# Altium schematic symbol library schematic.SchLib: 85 symbols
Pins are listed as number, name and electrical type; pins without a type are passive.

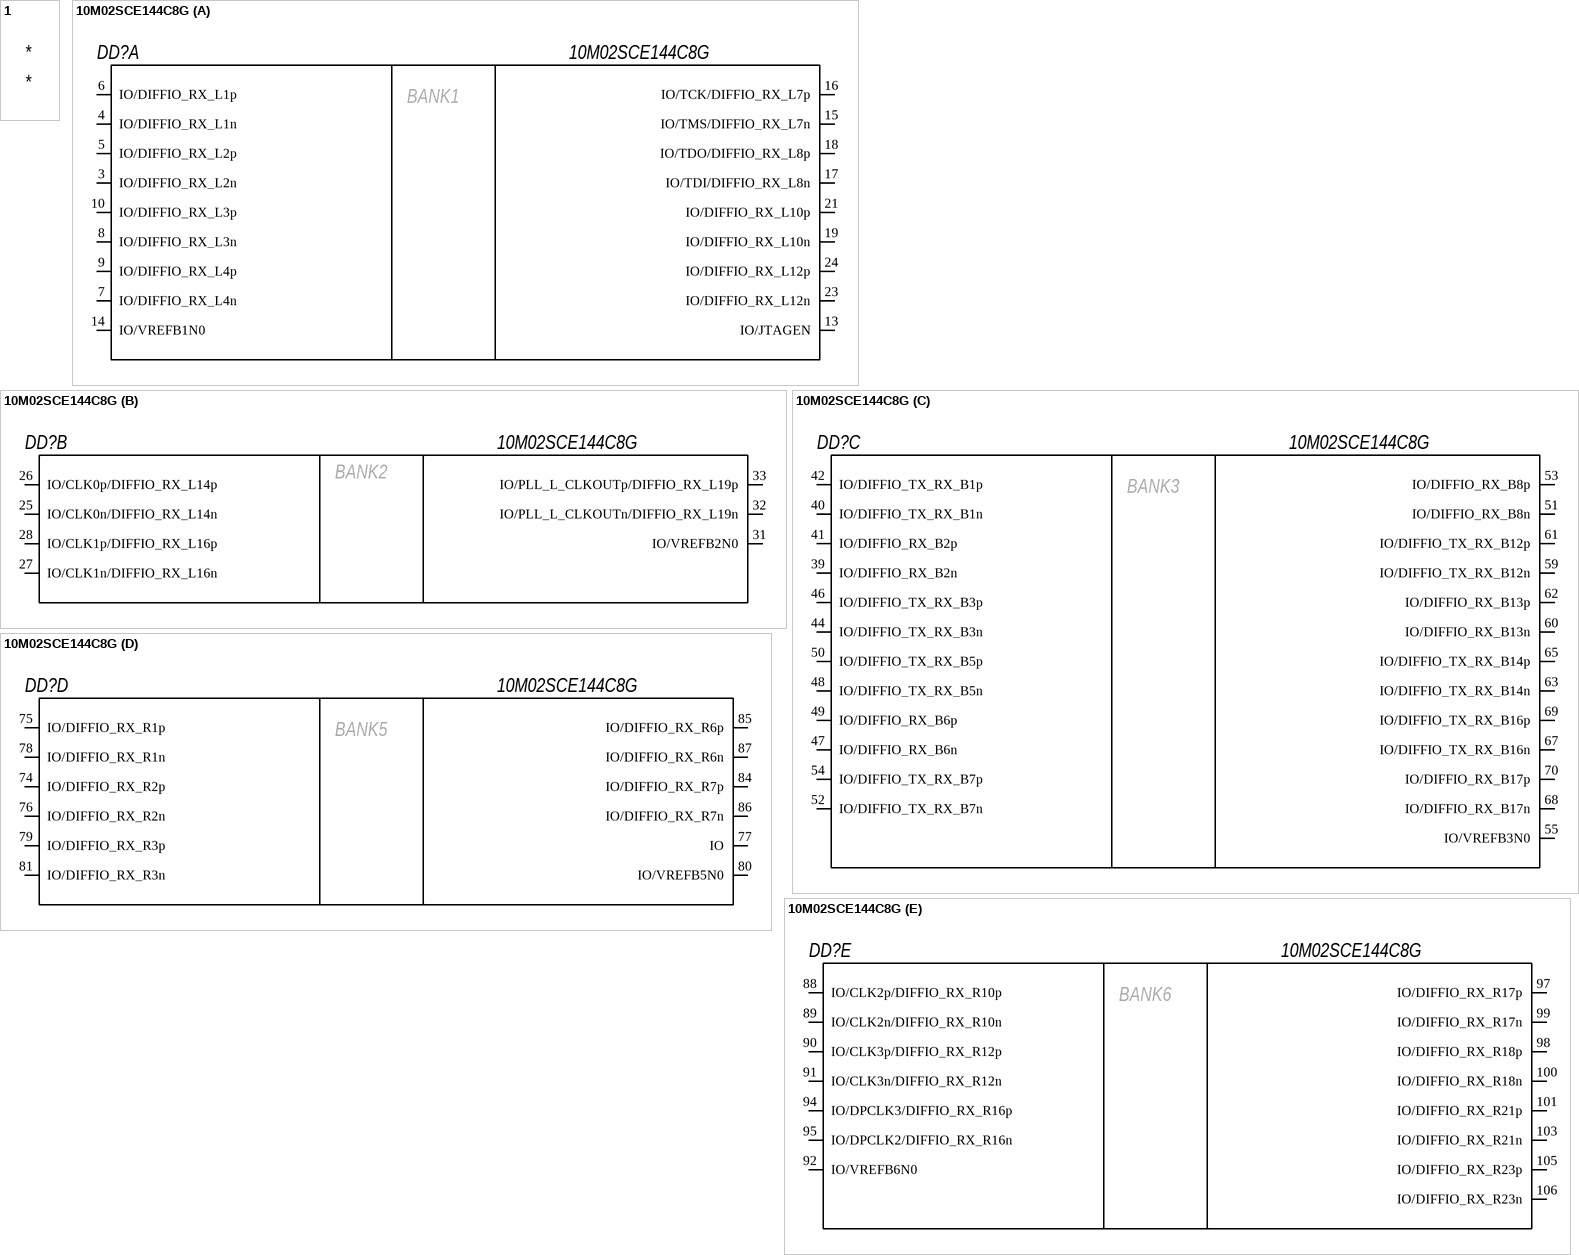
[diagram p0: symbols 1 to 10M02SCE144C8G]

## 1
designator *

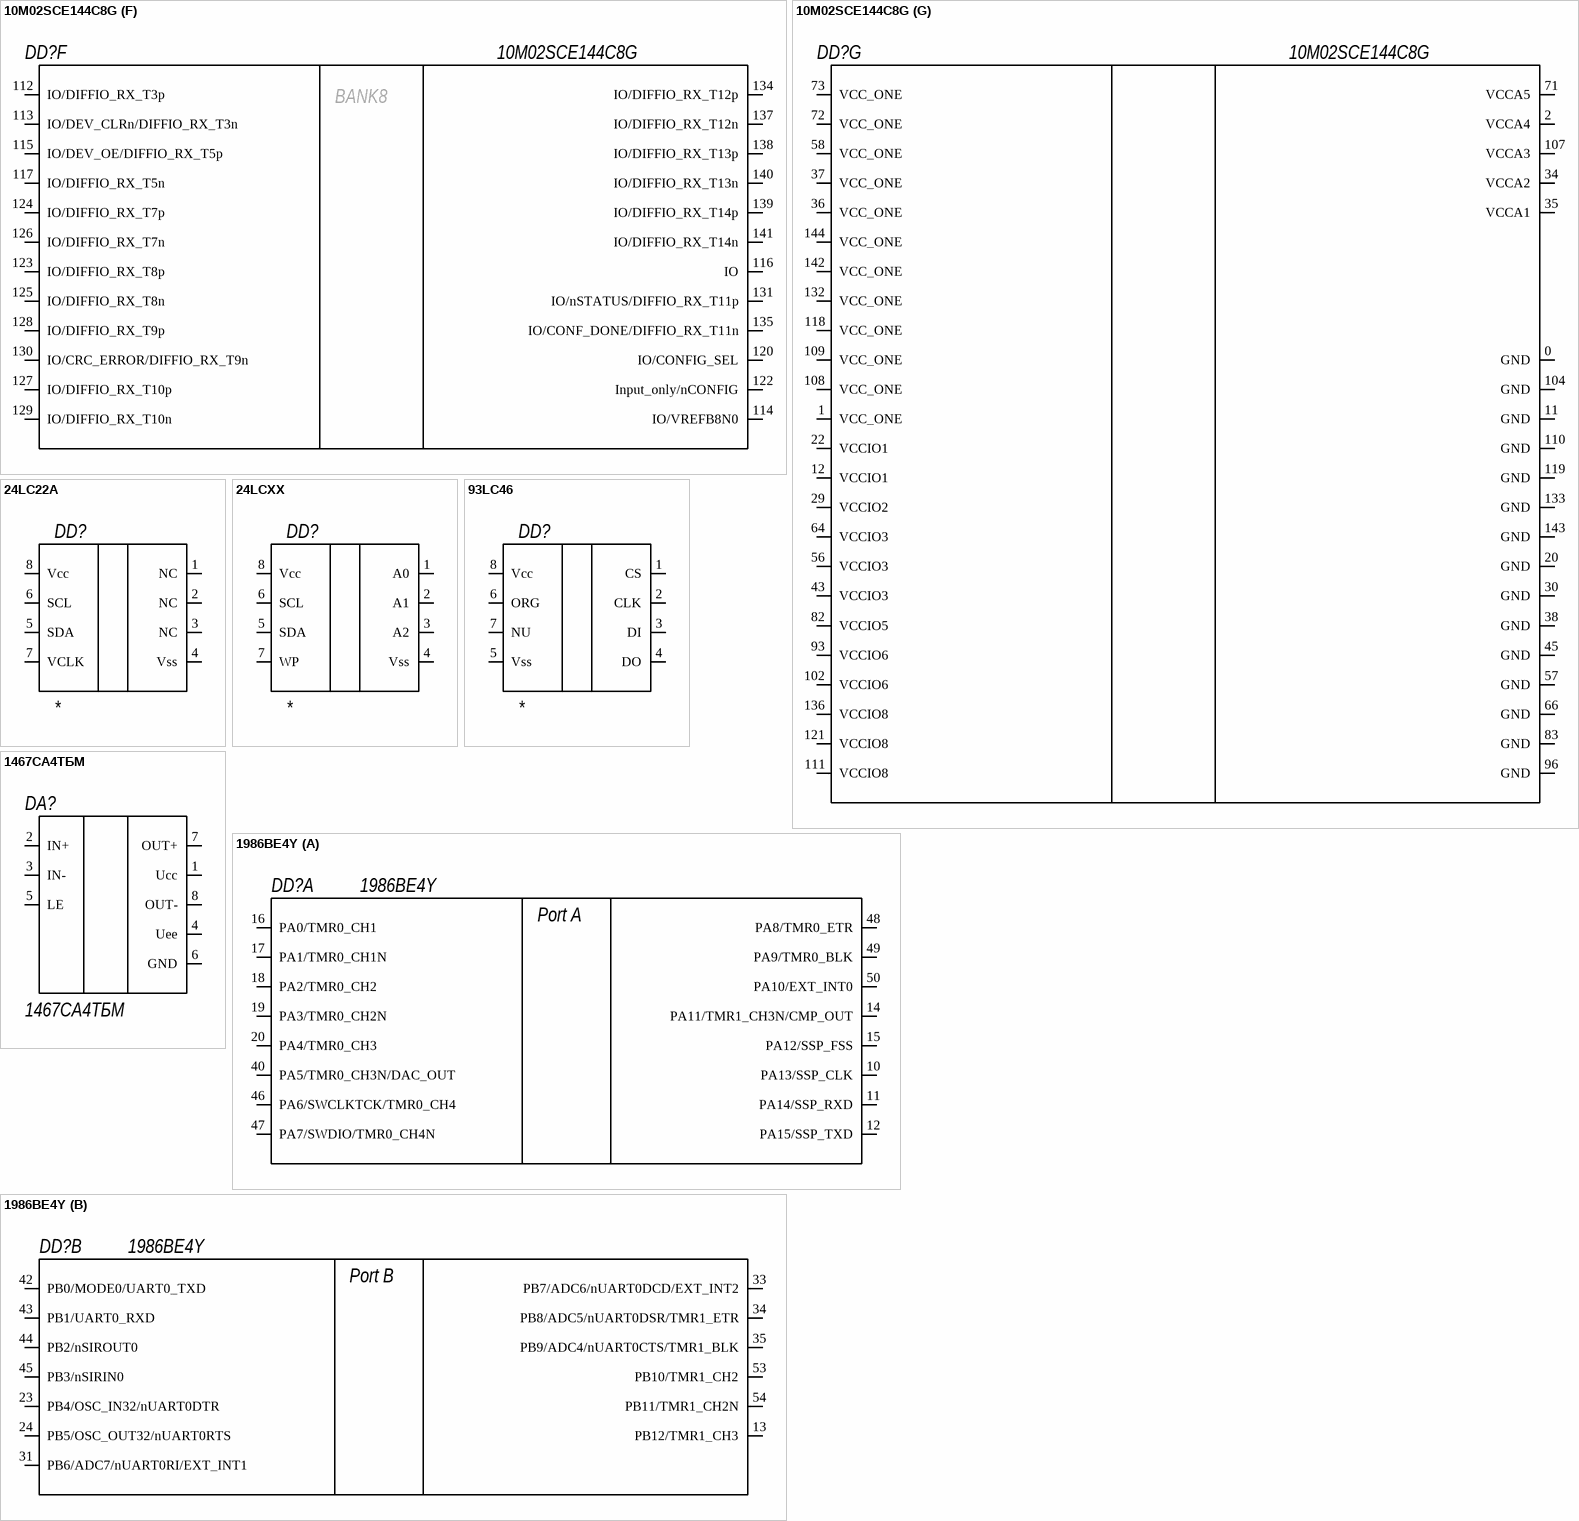
[diagram p1: symbols 10M02SCE144C8G to 1986BE4Y]

## 10M02SCE144C8G
designator DD?
MAX10 FPGA; Manufacturer: Intel; Value: 10M02SCE144C8G; HelpUrl: https://www.digikey.com/product-detail/en/intel/10M02SCE144C8G/544-3098-ND/5284822; PartNumber: 10M02SCE144C8G
footprint 144-Lead EQFP
part A pins: 3 IO/DIFFIO_RX_L2n (power), 4 IO/DIFFIO_RX_L1n (power), 5 IO/DIFFIO_RX_L2p (power), 6 IO/DIFFIO_RX_L1p (power), 7 IO/DIFFIO_RX_L4n (power), 8 IO/DIFFIO_RX_L3n (power), 9 IO/DIFFIO_RX_L4p (power), 10 IO/DIFFIO_RX_L3p (power), 13 IO/JTAGEN (power), 14 IO/VREFB1N0 (power), 15 IO/TMS/DIFFIO_RX_L7n (power), 16 IO/TCK/DIFFIO_RX_L7p (power), 17 IO/TDI/DIFFIO_RX_L8n (power), 18 IO/TDO/DIFFIO_RX_L8p (power), 19 IO/DIFFIO_RX_L10n (power), 21 IO/DIFFIO_RX_L10p (power), 23 IO/DIFFIO_RX_L12n (power), 24 IO/DIFFIO_RX_L12p (power)
part B pins: 25 IO/CLK0n/DIFFIO_RX_L14n (power), 26 IO/CLK0p/DIFFIO_RX_L14p (power), 27 IO/CLK1n/DIFFIO_RX_L16n (power), 28 IO/CLK1p/DIFFIO_RX_L16p (power), 31 IO/VREFB2N0 (power), 32 IO/PLL_L_CLKOUTn/DIFFIO_RX_L19n (power), 33 IO/PLL_L_CLKOUTp/DIFFIO_RX_L19p (power)
part C pins: 39 IO/DIFFIO_RX_B2n (power), 40 IO/DIFFIO_TX_RX_B1n (power), 41 IO/DIFFIO_RX_B2p (power), 42 IO/DIFFIO_TX_RX_B1p (power), 44 IO/DIFFIO_TX_RX_B3n (power), 46 IO/DIFFIO_TX_RX_B3p (power), 47 IO/DIFFIO_RX_B6n (power), 48 IO/DIFFIO_TX_RX_B5n (power), 49 IO/DIFFIO_RX_B6p (power), 50 IO/DIFFIO_TX_RX_B5p (power), 51 IO/DIFFIO_RX_B8n (power), 52 IO/DIFFIO_TX_RX_B7n (power), 53 IO/DIFFIO_RX_B8p (power), 54 IO/DIFFIO_TX_RX_B7p (power), 55 IO/VREFB3N0 (power), 59 IO/DIFFIO_TX_RX_B12n (power), 60 IO/DIFFIO_RX_B13n (power), 61 IO/DIFFIO_TX_RX_B12p (power), 62 IO/DIFFIO_RX_B13p (power), 63 IO/DIFFIO_TX_RX_B14n (power), 65 IO/DIFFIO_TX_RX_B14p (power), 67 IO/DIFFIO_TX_RX_B16n (power), 68 IO/DIFFIO_RX_B17n (power), 69 IO/DIFFIO_TX_RX_B16p (power), 70 IO/DIFFIO_RX_B17p (power)
part D pins: 74 IO/DIFFIO_RX_R2p (power), 75 IO/DIFFIO_RX_R1p (power), 76 IO/DIFFIO_RX_R2n (power), 77 IO (power), 78 IO/DIFFIO_RX_R1n (power), 79 IO/DIFFIO_RX_R3p (power), 80 IO/VREFB5N0 (power), 81 IO/DIFFIO_RX_R3n (power), 84 IO/DIFFIO_RX_R7p (power), 85 IO/DIFFIO_RX_R6p (power), 86 IO/DIFFIO_RX_R7n (power), 87 IO/DIFFIO_RX_R6n (power)
part E pins: 88 IO/CLK2p/DIFFIO_RX_R10p (power), 89 IO/CLK2n/DIFFIO_RX_R10n (power), 90 IO/CLK3p/DIFFIO_RX_R12p (power), 91 IO/CLK3n/DIFFIO_RX_R12n (power), 92 IO/VREFB6N0 (power), 94 IO/DPCLK3/DIFFIO_RX_R16p (power), 95 IO/DPCLK2/DIFFIO_RX_R16n (power), 97 IO/DIFFIO_RX_R17p (power), 98 IO/DIFFIO_RX_R18p (power), 99 IO/DIFFIO_RX_R17n (power), 100 IO/DIFFIO_RX_R18n (power), 101 IO/DIFFIO_RX_R21p (power), 103 IO/DIFFIO_RX_R21n (power), 105 IO/DIFFIO_RX_R23p (power), 106 IO/DIFFIO_RX_R23n (power)
part F pins: 112 IO/DIFFIO_RX_T3p (power), 113 IO/DEV_CLRn/DIFFIO_RX_T3n (power), 114 IO/VREFB8N0 (power), 115 IO/DEV_OE/DIFFIO_RX_T5p (power), 116 IO (power), 117 IO/DIFFIO_RX_T5n (power), 120 IO/CONFIG_SEL (power), 122 Input_only/nCONFIG (power), 123 IO/DIFFIO_RX_T8p (power), 124 IO/DIFFIO_RX_T7p (power), 125 IO/DIFFIO_RX_T8n (power), 126 IO/DIFFIO_RX_T7n (power), 127 IO/DIFFIO_RX_T10p (power), 128 IO/DIFFIO_RX_T9p (power), 129 IO/DIFFIO_RX_T10n (power), 130 IO/CRC_ERROR/DIFFIO_RX_T9n (power), 131 IO/nSTATUS/DIFFIO_RX_T11p (power), 134 IO/DIFFIO_RX_T12p (power), 135 IO/CONF_DONE/DIFFIO_RX_T11n (power), 137 IO/DIFFIO_RX_T12n (power), 138 IO/DIFFIO_RX_T13p (power), 139 IO/DIFFIO_RX_T14p (power), 140 IO/DIFFIO_RX_T13n (power), 141 IO/DIFFIO_RX_T14n (power)
part G pins: 0 GND (power), 1 VCC_ONE (power), 2 VCCA4 (power), 11 GND (power), 12 VCCIO1 (power), 20 GND (power), 22 VCCIO1 (power), 29 VCCIO2 (power), 30 GND (power), 34 VCCA2 (power), 35 VCCA1 (power), 36 VCC_ONE (power), 37 VCC_ONE (power), 38 GND (power), 43 VCCIO3 (power), 45 GND (power), 56 VCCIO3 (power), 57 GND (power), 58 VCC_ONE (power), 64 VCCIO3 (power), 66 GND (power), 71 VCCA5 (power), 72 VCC_ONE (power), 73 VCC_ONE (power), 82 VCCIO5 (power), 83 GND (power), 93 VCCIO6 (power), 96 GND (power), 102 VCCIO6 (power), 104 GND (power), 107 VCCA3 (power), 108 VCC_ONE (power), 109 VCC_ONE (power), 110 GND (power), 111 VCCIO8 (power), 118 VCC_ONE (power), 119 GND (power), 121 VCCIO8 (power), 132 VCC_ONE (power), 133 GND (power), 136 VCCIO8 (power), 142 VCC_ONE (power), 143 GND (power), 144 VCC_ONE (power)
part A text: BANK1
part B text: BANK2
part C text: BANK3
part D text: BANK5
part E text: BANK6
part F text: BANK8

## 24LC22A
designator DD?
IIC EEPROM; Manufacturer: Microchip; Value: *; Value1: *; ТУ: *
footprint 8-Lead SOIC_N (150 mil)
pins: 1 NC (power), 2 NC (power), 3 NC (power), 4 Vss (power), 5 SDA (power), 6 SCL (power), 7 VCLK (power), 8 Vcc (power)

## 24LCXX
designator DD?
IIC EEPROM; Manufacturer: Microchip; Value: *; Value1: *; ТУ: *
footprint 8-Lead MSOP
footprint 8-Lead SOIC_N (150 mil)
pins: 1 A0 (power), 2 A1 (power), 3 A2 (power), 4 Vss (power), 5 SDA (power), 6 SCL (power), 7 WP (power), 8 Vcc (power)

## 93LC46
designator DD?
IIC EEPROM; Manufacturer: Microchip; Value: *; Value1: *; ТУ: *
footprint 8-Lead SOIC_N (150 mil)
pins: 1 CS (power), 2 CLK (power), 3 DI (power), 4 DO (power), 5 Vss (power), 6 ORG (power), 7 NU (power), 8 Vcc (power)

## 1467СА4ТБМ
designator DA?
Manufacturer: *; Value: 1467СА4ТБМ; Value1: *
footprint 1467СА4ТБМ
pins: 1 Ucc (power), 2 IN+ (power), 3 IN- (power), 4 Uee (power), 5 LE, 6 GND (power), 7 OUT+ (power), 8 OUT- (power)

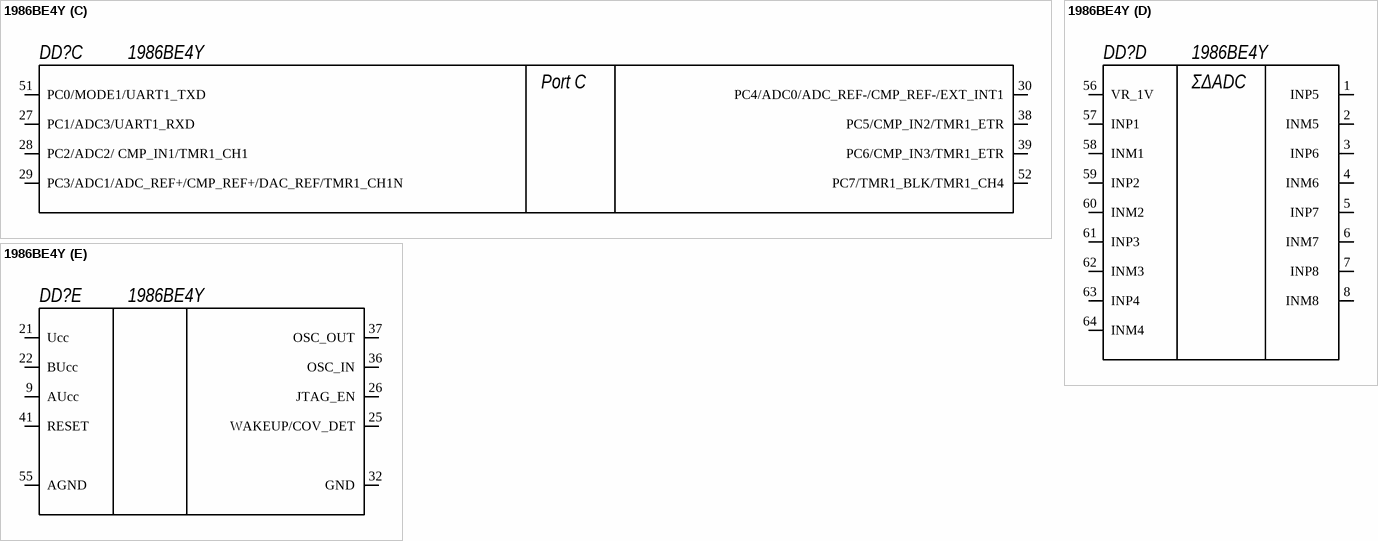
[diagram p2: symbol 1986BE4Y]

## 1986BE4Y
designator DD?
Microcontroller; manufacturer: Миландр; value: 1986BE4Y; url: *; value1: 1986BE4Y
footprint 5153.64-1
footprint Н18.64-1В
part A pins: 10 PA13/SSP_CLK (power), 11 PA14/SSP_RXD (power), 12 PA15/SSP_TXD (power), 14 PA11/TMR1_CH3N/CMP_OUT (power), 15 PA12/SSP_FSS (power), 16 PA0/TMR0_CH1 (power), 17 PA1/TMR0_CH1N (power), 18 PA2/TMR0_CH2 (power), 19 PA3/TMR0_CH2N (power), 20 PA4/TMR0_CH3 (power), 40 PA5/TMR0_CH3N/DAC_OUT (power), 46 PA6/SWCLKTCK/TMR0_CH4 (power), 47 PA7/SWDIO/TMR0_CH4N (power), 48 PA8/TMR0_ETR (power), 49 PA9/TMR0_BLK (power), 50 PA10/EXT_INT0 (power)
part B pins: 13 PB12/TMR1_CH3 (power), 23 PB4/OSC_IN32/nUART0DTR (power), 24 PB5/OSC_OUT32/nUART0RTS (power), 31 PB6/ADC7/nUART0RI/EXT_INT1 (power), 33 PB7/ADC6/nUART0DCD/EXT_INT2 (power), 34 PB8/ADC5/nUART0DSR/TMR1_ETR (power), 35 PB9/ADC4/nUART0CTS/TMR1_BLK (power), 42 PB0/MODE0/UART0_TXD (power), 43 PB1/UART0_RXD (power), 44 PB2/nSIROUT0 (power), 45 PB3/nSIRIN0 (power), 53 PB10/TMR1_CH2 (power), 54 PB11/TMR1_CH2N (power)
part C pins: 27 PC1/ADC3/UART1_RXD (power), 28 PC2/ADC2/ CMP_IN1/TMR1_CH1 (power), 29 PC3/ADC1/ADC_REF+/CMP_REF+/DAC_REF/TMR1_CH1N (power), 30 PC4/ADC0/ADC_REF-/CMP_REF-/EXT_INT1 (power), 38 PC5/CMP_IN2/TMR1_ETR (power), 39 PC6/CMP_IN3/TMR1_ETR (power), 51 PC0/MODE1/UART1_TXD (power), 52 PC7/TMR1_BLK/TMR1_CH4 (power)
part D pins: 1 INP5    (power), 2 INM5    (power), 3 INP6    (power), 4 INM6    (power), 5 INP7    (power), 6 INM7    (power), 7 INP8    (power), 8 INM8    (power), 56 VR_1V    (power), 57 INP1    (power), 58 INM1    (power), 59 INP2    (power), 60 INM2    (power), 61 INP3    (power), 62 INM3    (power), 63 INP4    (power), 64 INM4    (power)
part E pins: 9 AUcc (power), 21 Ucc (power), 22 BUcc (power), 25 WAKEUP/COV_DET (power), 26 JTAG_EN (power), 32 GND (power), 36 OSC_IN (power), 37 OSC_OUT (power), 41 RESET (power), 55 AGND (power)
part A text: Port A
part B text: Port B
part C text: Port C
part D text: ΣΔADC

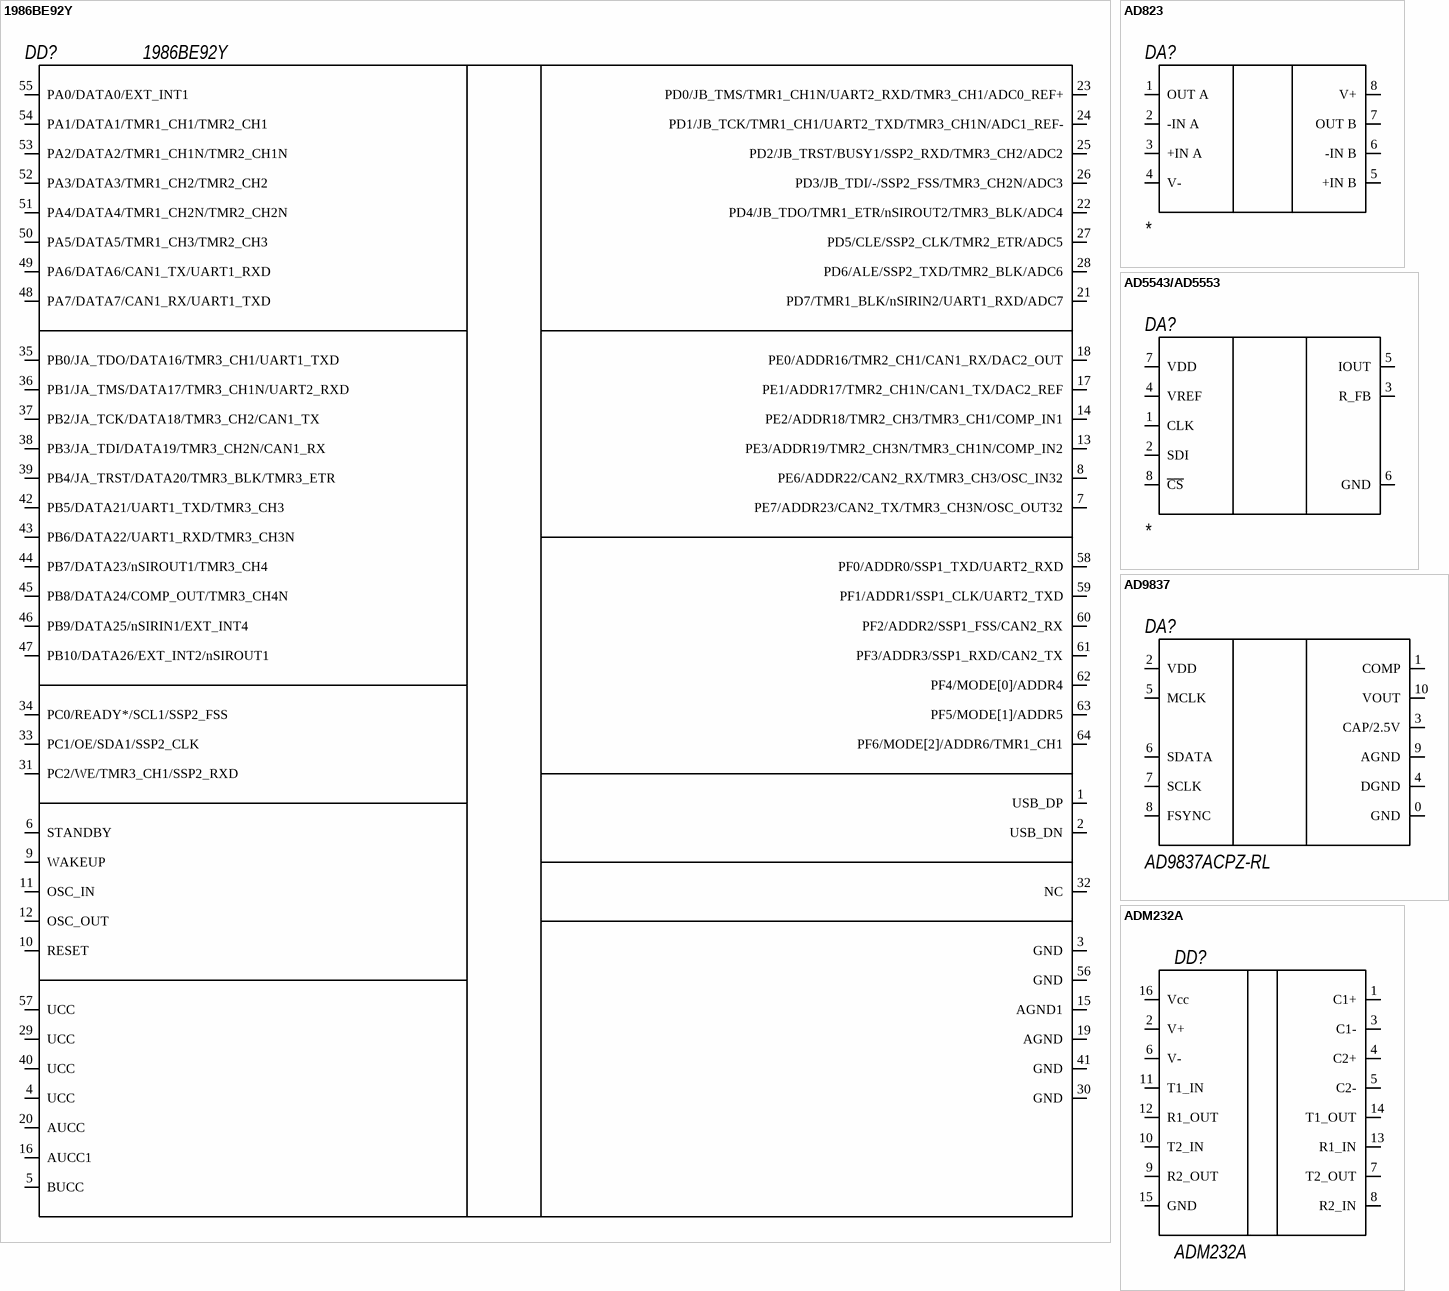
[diagram p3: symbols 1986BE92Y to ADM232A]

## 1986BE92Y
designator DD?
Microcontroller; manufacturer: Миландр; value: 1986BE92Y; url: *; value1: 1986BE92Y
footprint Н18.64-1В
pins: 1 USB_DP (power), 2 USB_DN (power), 3 GND (power), 4 UCC (power), 5 BUCC (power), 6 STANDBY (power), 7 PE7/ADDR23/CAN2_TX/TMR3_CH3N/OSC_OUT32 (power), 8 PE6/ADDR22/CAN2_RX/TMR3_CH3/OSC_IN32 (power), 9 WAKEUP (power), 10 RESET (power), 11 OSC_IN (power), 12 OSC_OUT (power), 13 PE3/ADDR19/TMR2_CH3N/TMR3_CH1N/COMP_IN2 (power), 14 PE2/ADDR18/TMR2_CH3/TMR3_CH1/COMP_IN1 (power), 15 AGND1 (power), 16 AUCC1 (power), 17 PE1/ADDR17/TMR2_CH1N/CAN1_TX/DAC2_REF (power), 18 PE0/ADDR16/TMR2_CH1/CAN1_RX/DAC2_OUT (power), 19 AGND (power), 20 AUCC (power), 21 PD7/TMR1_BLK/nSIRIN2/UART1_RXD/ADC7 (power), 22 PD4/JB_TDO/TMR1_ETR/nSIROUT2/TMR3_BLK/ADC4 (power), 23 PD0/JB_TMS/TMR1_CH1N/UART2_RXD/TMR3_CH1/ADC0_REF+ (power), 24 PD1/JB_TCK/TMR1_CH1/UART2_TXD/TMR3_CH1N/ADC1_REF- (power), 25 PD2/JB_TRST/BUSY1/SSP2_RXD/TMR3_CH2/ADC2 (power), 26 PD3/JB_TDI/-/SSP2_FSS/TMR3_CH2N/ADC3 (power), 27 PD5/CLE/SSP2_CLK/TMR2_ETR/ADC5 (power), 28 PD6/ALE/SSP2_TXD/TMR2_BLK/ADC6 (power), 29 UCC (power), 30 GND (power), 31 PC2/WE/TMR3_CH1/SSP2_RXD (power), 32 NC (power), 33 PC1/OE/SDA1/SSP2_CLK (power), 34 PC0/READY*/SCL1/SSP2_FSS (power), 35 PB0/JA_TDO/DATA16/TMR3_CH1/UART1_TXD (power), 36 PB1/JA_TMS/DATA17/TMR3_CH1N/UART2_RXD (power), 37 PB2/JA_TCK/DATA18/TMR3_CH2/CAN1_TX (power), 38 PB3/JA_TDI/DATA19/TMR3_CH2N/CAN1_RX (power), 39 PB4/JA_TRST/DATA20/TMR3_BLK/TMR3_ETR (power), 40 UCC (power), 41 GND (power), 42 PB5/DATA21/UART1_TXD/TMR3_CH3 (power), 43 PB6/DATA22/UART1_RXD/TMR3_CH3N (power), 44 PB7/DATA23/nSIROUT1/TMR3_CH4 (power), 45 PB8/DATA24/COMP_OUT/TMR3_CH4N (power), 46 PB9/DATA25/nSIRIN1/EXT_INT4 (power), 47 PB10/DATA26/EXT_INT2/nSIROUT1 (power), 48 PA7/DATA7/CAN1_RX/UART1_TXD (power), 49 PA6/DATA6/CAN1_TX/UART1_RXD (power), 50 PA5/DATA5/TMR1_CH3/TMR2_CH3 (power), 51 PA4/DATA4/TMR1_CH2N/TMR2_CH2N (power), 52 PA3/DATA3/TMR1_CH2/TMR2_CH2 (power), 53 PA2/DATA2/TMR1_CH1N/TMR2_CH1N (power), 54 PA1/DATA1/TMR1_CH1/TMR2_CH1 (power), 55 PA0/DATA0/EXT_INT1 (power), 56 GND (power), 57 UCC (power), 58 PF0/ADDR0/SSP1_TXD/UART2_RXD (power), 59 PF1/ADDR1/SSP1_CLK/UART2_TXD (power), 60 PF2/ADDR2/SSP1_FSS/CAN2_RX (power), 61 PF3/ADDR3/SSP1_RXD/CAN2_TX (power), 62 PF4/MODE[0]/ADDR4 (power), 63 PF5/MODE[1]/ADDR5 (power), 64 PF6/MODE[2]/ADDR6/TMR1_CH1 (power)

## AD823
designator DA?
OP amplifier; Manufacturer: Analog Devices; HelpUrl: *; Value: *; PartNumber: *; Value1: *
footprint 8-Lead SOIC_N (150 mil)
pins: 1 OUT A (power), 2 -IN A (power), 3 +IN A (power), 4 V- (power), 5 +IN B (power), 6 -IN B (power), 7 OUT B (power), 8 V+ (power)

## AD5543/AD5553
designator DA?
Current output DAC; Value: *; Manufacturer: *; Case: *; PartNumber: *; HelpUrl: *
footprint 8-Lead MSOP
pins: 1 CLK (power), 2 SDI (power), 3 R_FB (power), 4 VREF (power), 5 IOUT (power), 6 GND (power), 7 VDD (power), 8 ~{CS} (power)

## AD9837
designator DA?, comment AD9837ACPZ-RL
DDS; Manufacturer: Analog devices; Value: AD9837ACPZ-RL; HelpUrl: *; PartNumber: AD9837ACPZ-RL; Value1: *
footprint 10-Lead LFCSP
pins: 0 GND (power), 1 COMP (power), 2 VDD (power), 3 CAP/2.5V (power), 4 DGND (power), 5 MCLK (power), 6 SDATA (power), 7 SCLK (power), 8 FSYNC (power), 9 AGND (power), 10 VOUT (power)

## ADM232A
designator DD?
RS-232 to UART; manufacturer: Analog Devices; value: ADM232A; value1: ADM232A; url: *
footprint 16-LEAD SOIC_N (150 mil)
pins: 1 C1+ (power), 2 V+ (power), 3 C1- (power), 4 C2+ (power), 5 C2- (power), 6 V- (power), 7 T2_OUT (power), 8 R2_IN (power), 9 R2_OUT (power), 10 T2_IN (power), 11 T1_IN (power), 12 R1_OUT (power), 13 R1_IN (power), 14 T1_OUT (power), 15 GND (power), 16 Vcc (power)

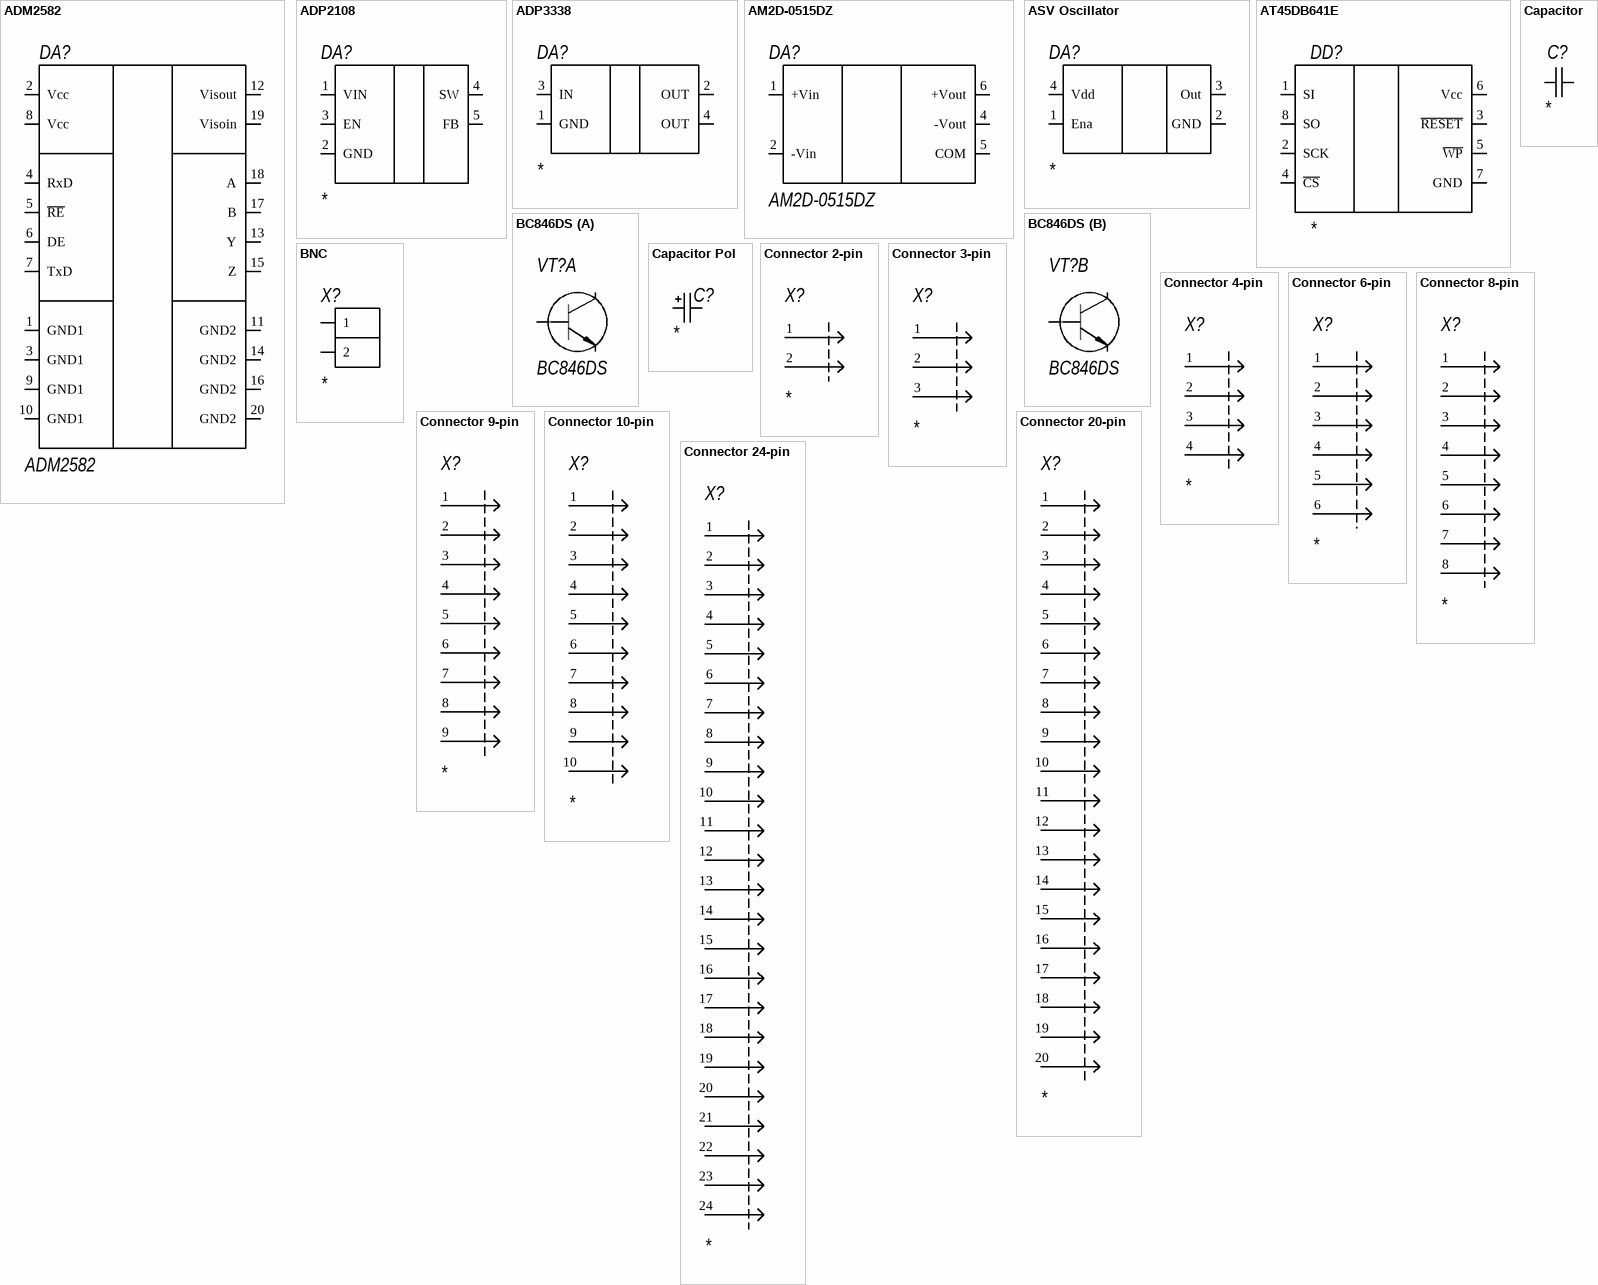
[diagram p4: symbols ADM2582 to Connector 24-pin]

## ADM2582
designator DA?
UART to RS-485/422; manufacturer: Analog Devices; value1: *; value: ADM2582; url: *
footprint 20-LEAD SOIC_W (208 mil)
pins: 1 GND1 (power), 2 Vcc (power), 3 GND1 (power), 4 RxD (power), 5 ~{RE} (power), 6 DE (power), 7 TxD (power), 8 Vcc (power), 9 GND1 (power), 10 GND1 (power), 11 GND2 (power), 12 Visout (power), 13 Y (power), 14 GND2 (power), 15 Z (power), 16 GND2 (power), 17 B (power), 18 A (power), 19 Visoin (power), 20 GND2 (power)

## ADP2108
designator DA?
Voltage regulator; Manufacturer: Analog devices; HelpUrl: *; Value: *; PartNumber: *; Value1: *
footprint 5-Lead TSOT
pins: 1 VIN (power), 2 GND (power), 3 EN (power), 4 SW (power), 5 FB (power)

## ADP3338
designator DA?
Voltage regulator; Manufacturer: Analog Devices; HelpUrl: *; Value: *; PartNumber: *; Value1: *
footprint sot223
pins: 1 GND (power), 2 OUT (power), 3 IN (power), 4 OUT (power)

## AM2D-0515DZ
designator DA?
DC/DC; Manufacturer: Aimtec; Value: AM2D-0515DZ; HelpUrl: https://static.chipdip.ru/lib/782/DOC002782698.pdf; PartNumber: AM2D-0515DZ; Value1: *
footprint SIP7(1,2,4,5,6)
pins: 1 +Vin (power), 2 -Vin (power), 4 -Vout (power), 5 COM (power), 6 +Vout (power)

## ASV Oscillator
designator DA?
Oscillator; Manufacturer: Abracon LLC; PartNumber: *; HelpUrl: https://abracon.com/Oscillators/ASV.pdf; Value: *; value1: *
footprint 4-SMD, NO LEAD
pins: 1 Ena (power), 2 GND (power), 3 Out (power), 4 Vdd (power)

## AT45DB641E
designator DD?
SPI Flash; value: *; value1: *; manufacturer: *; url: https://ru.mouser.com/datasheet/2/590/DS-45DB641E-027-1385809.pdf; ТУ: *
footprint 8-LEAD SOIC_W (208 mil)
pins: 1 SI (power), 2 SCK (power), 3 ~{RESET} (power), 4 ~{CS} (power), 5 ~{WP} (power), 6 Vcc (power), 7 GND (power), 8 SO (power)

## BC846DS
designator VT?
value: BC846DS; value1: *; ТУ: *; manufacturer: *
footprint 6-LEAD TSOP
part A pins: 1, 2, 6
part B pins: 3, 4, 5

## BNC
designator X?
Connector; PartNumber: *; Manufacturer: *; Value: *; value1: *
footprint BNC
pins: 1 (power), 2 (power)

## Capacitor
designator C?
Value: *; Value1: *; ТУ: *; Url: *
footprint К15-20В (5.5x4)
footprint C0805
footprint C0402
footprint C0603
footprint C1206
footprint C1210
footprint C 15mm
footprint C 10mm
pins: 1, 2

## Capacitor Pol
designator C?
Value: *; Value1: *; Manufacturer: *; ТУ: *; Url: *
footprint C size D
footprint C size A
footprint C size B
footprint C size C
footprint C size E
footprint C 3.5mm
pins: 1, 2

## Connector 2-pin
designator X?
Connector; Manufacturer: *; PartNumber: *; Value: *; Value1: *
footprint DS1070-2
footprint PLS-2
pins: 1 (power), 2 (power)

## Connector 3-pin
designator X?
Connector; Manufacturer: *; Value: *; Value1: *
footprint PLS-3
pins: 1 (power), 2 (power), 3 (power)

## Connector 4-pin
designator X?
Connector; Manufacturer: *; Value: *; Value1: *
footprint PLS-4
pins: 1 (power), 2 (power), 3 (power), 4 (power)

## Connector 6-pin
designator X?
Connector; Manufacturer: *; Value: *; Value1: *
footprint PLD-6
footprint Molex 398800306
pins: 1 (power), 2 (power), 3 (power), 4 (power), 5 (power), 6 (power)

## Connector 8-pin
designator X?
Connector; Manufacturer: *; Value: *; Value1: *
footprint PLD-8
pins: 1 (power), 2 (power), 3 (power), 4 (power), 5 (power), 6 (power), 7 (power), 8 (power)

## Connector 9-pin
designator X?
Connector; Manufacturer: *; Value: *; Value1: *
footprint DRB- 9MA (DBR-9M) (DS1037-9M)
pins: 1 (power), 2 (power), 3 (power), 4 (power), 5 (power), 6 (power), 7 (power), 8 (power), 9 (power)

## Connector 10-pin
designator X?
Connector; Manufacturer: *; Value: *; Value1: *
footprint IDC-10MS
footprint PLD2-10
pins: 1 (power), 2 (power), 3 (power), 4 (power), 5 (power), 6 (power), 7 (power), 8 (power), 9 (power), 10 (power)

## Connector 20-pin
designator X?
Connector; Manufacturer: *; Value: *; Value1: *
footprint PLD-20
pins: 1 (power), 2 (power), 3 (power), 4 (power), 5 (power), 6 (power), 7 (power), 8 (power), 9 (power), 10 (power), 11 (power), 12 (power), 13 (power), 14 (power), 15 (power), 16 (power), 17 (power), 18 (power), 19 (power), 20 (power)

## Connector 24-pin
designator X?
Connector; Manufacturer: *; Value: *; Value1: *
footprint PLD-24
pins: 1 (power), 2 (power), 3 (power), 4 (power), 5 (power), 6 (power), 7 (power), 8 (power), 9 (power), 10 (power), 11 (power), 12 (power), 13 (power), 14 (power), 15 (power), 16 (power), 17 (power), 18 (power), 19 (power), 20 (power), 21 (power), 22 (power), 23 (power), 24 (power)

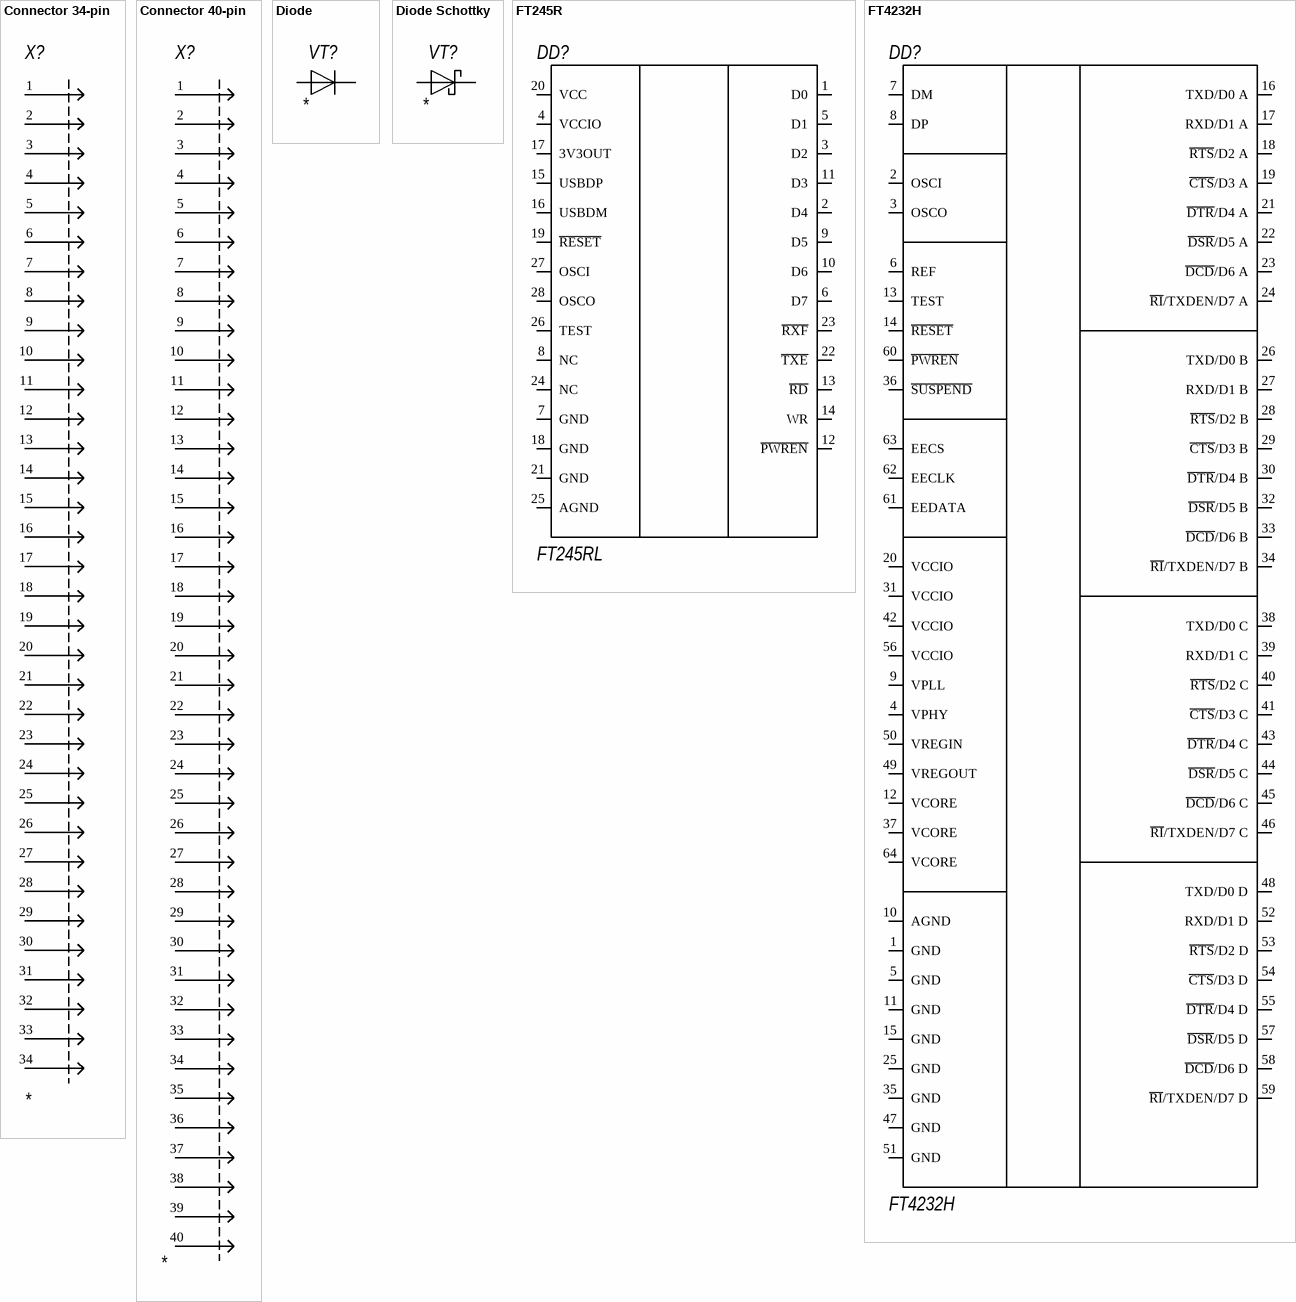
[diagram p5: symbols Connector 34-pin to FT4232H]

## Connector 34-pin
designator X?
Connector; Manufacturer: *; Value: *; Value1: *
footprint PLD-34
pins: 1 (power), 2 (power), 3 (power), 4 (power), 5 (power), 6 (power), 7 (power), 8 (power), 9 (power), 10 (power), 11 (power), 12 (power), 13 (power), 14 (power), 15 (power), 16 (power), 17 (power), 18 (power), 19 (power), 20 (power), 21 (power), 22 (power), 23 (power), 24 (power), 25 (power), 26 (power), 27 (power), 28 (power), 29 (power), 30 (power), 31 (power), 32 (power), 33 (power), 34 (power)

## Connector 40-pin
designator X?
Connector; Manufacturer: *; Value: *; Value1: *
footprint PLD-40
footprint PLD2-40
pins: 1 (power), 2 (power), 3 (power), 4 (power), 5 (power), 6 (power), 7 (power), 8 (power), 9 (power), 10 (power), 11 (power), 12 (power), 13 (power), 14 (power), 15 (power), 16 (power), 17 (power), 18 (power), 19 (power), 20 (power), 21 (power), 22 (power), 23 (power), 24 (power), 25 (power), 26 (power), 27 (power), 28 (power), 29 (power), 30 (power), 31 (power), 32 (power), 33 (power), 34 (power), 35 (power), 36 (power), 37 (power), 38 (power), 39 (power), 40 (power)

## Diode
designator VT?
Value: *; Manufacturer: *; HelpUrl: *; Value1: *
footprint d0805
pins: 1 (power), 2 (power)

## Diode Schottky
designator VT?
Value: *; Manufacturer: *; HelpUrl: *; Value1: *
footprint d0805
pins: 1 (power), 2 (power)

## FT245R
designator DD?, comment FT245RL
FTDI USB - FIFO; Value: FT245RL; Manufacturer: *; HelpUrl: https://www.digikey.com/product-detail/en/ftdi-future-technology-devices-international-ltd/FT245RL-REEL/768-1011-1-ND/1836406; PartNumber: *; Value1: *
footprint 28-Lead SSOP
pins: 1 D0 (power), 2 D4 (power), 3 D2 (power), 4 VCCIO (power), 5 D1 (power), 6 D7 (power), 7 GND (power), 8 NC (power), 9 D5 (power), 10 D6 (power), 11 D3 (power), 12 ~{PWREN} (power), 13 ~{RD} (power), 14 WR (power), 15 USBDP (power), 16 USBDM (power), 17 3V3OUT (power), 18 GND (power), 19 ~{RESET} (power), 20 VCC (power), 21 GND (power), 22 ~{TXE} (power), 23 ~{RXF} (power), 24 NC (power), 25 AGND (power), 26 TEST (power), 27 OSCI (power), 28 OSCO (power)

## FT4232H
designator DD?
manufacturer: *; value1: *; value: FT4232H; helpUrl: https://www.ftdichip.com/Support/Documents/DataSheets/ICs/DS_FT4232H.pdf
footprint 64-LEAD VQFN (9x9)
pins: 1 GND (power), 2 OSCI (power), 3 OSCO (power), 4 VPHY (power), 5 GND (power), 6 REF (power), 7 DM (power), 8 DP (power), 9 VPLL (power), 10 AGND (power), 11 GND (power), 12 VCORE (power), 13 TEST (power), 14 ~{RESET} (power), 15 GND (power), 16 TXD/D0 A (power), 17 RXD/D1 A (power), 18 ~{RTS}/D2 A (power), 19 ~{CTS}/D3 A (power), 20 VCCIO (power), 21 ~{DTR}/D4 A (power), 22 ~{DSR}/D5 A (power), 23 ~{DCD}/D6 A (power), 24 ~{RI}/TXDEN/D7 A (power), 25 GND (power), 26 TXD/D0 B (power), 27 RXD/D1 B (power), 28 ~{RTS}/D2 B (power), 29 ~{CTS}/D3 B (power), 30 ~{DTR}/D4 B (power), 31 VCCIO (power), 32 ~{DSR}/D5 B (power), 33 ~{DCD}/D6 B (power), 34 ~{RI}/TXDEN/D7 B (power), 35 GND (power), 36 ~{SUSPEND} (power), 37 VCORE (power), 38 TXD/D0 C (power), 39 RXD/D1 C (power), 40 ~{RTS}/D2 C (power), 41 ~{CTS}/D3 C (power), 42 VCCIO (power), 43 ~{DTR}/D4 C (power), 44 ~{DSR}/D5 C (power), 45 ~{DCD}/D6 C (power), 46 ~{RI}/TXDEN/D7 C (power), 47 GND (power), 48 TXD/D0 D (power), 49 VREGOUT (power), 50 VREGIN (power), 51 GND (power), 52 RXD/D1 D (power), 53 ~{RTS}/D2 D (power), 54 ~{CTS}/D3 D (power), 55 ~{DTR}/D4 D (power), 56 VCCIO (power), 57 ~{DSR}/D5 D (power), 58 ~{DCD}/D6 D (power), 59 ~{RI}/TXDEN/D7 D (power), 60 ~{PWREN} (power), 61 EEDATA (power), 62 EECLK (power), 63 EECS (power), 64 VCORE (power)

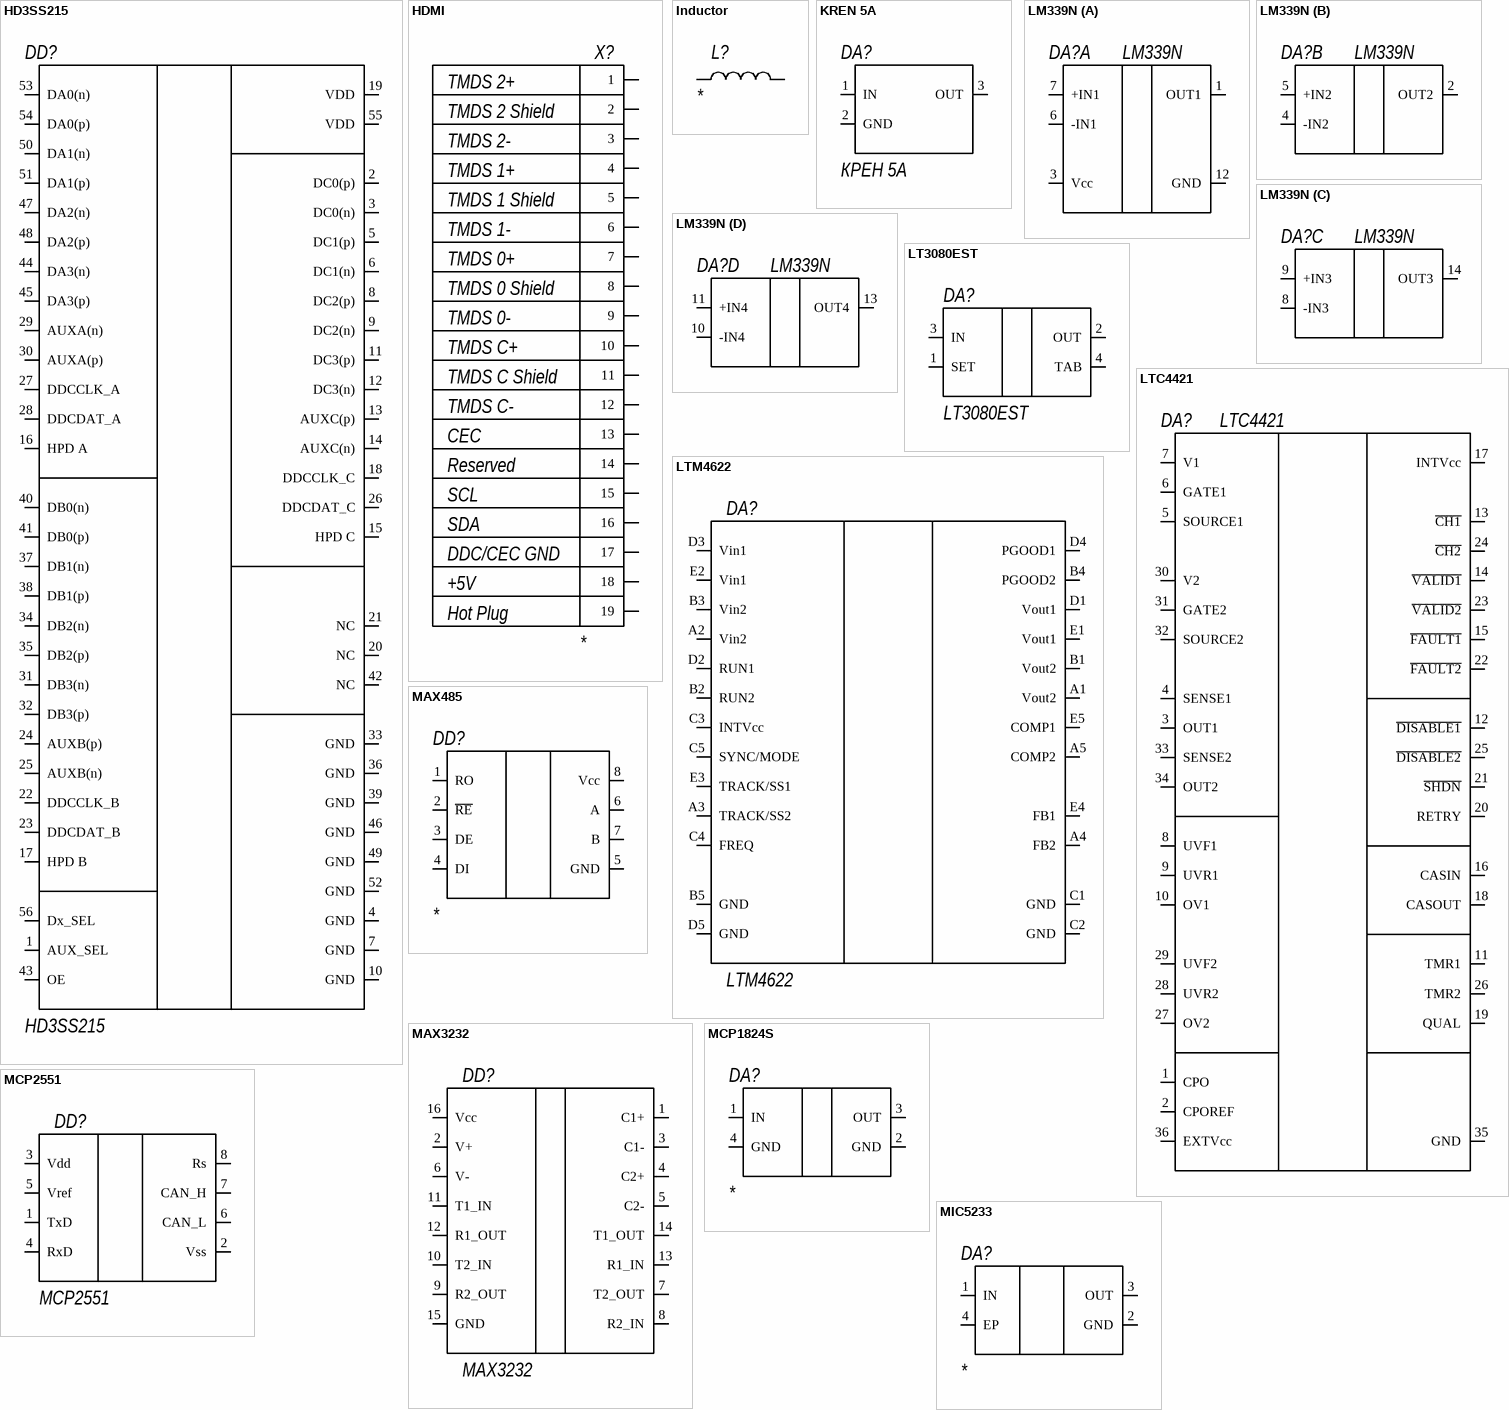
[diagram p6: symbols HD3SS215 to MIC5233]

## HD3SS215
designator DD?
HDMI MUX; value: HD3SS215; helpUrl: https://www.ti.com/lit/ds/symlink/hd3ss215.pdf?ts=1594102929034&ref_url=https%253A%252F%252Fwww.ti.com%252Fproduct%252FHD3SS215%253Futm_source%253Dgoogle%2526utm_medium%253Dcpc%2526utm_campaign%253Dasc-null-null-GPN_EN-cpc-pf-google-wwe%2526utm_content%253DHD3SS215%2526ds_k%253DHD3SS215%2526DCM%253Dyes%2526gclid%253DCj0KCQjwl4v4BRDaARIsAFjATPnCbTZgI2t2pQQjiL54hzTubeOsdG8tzsmtv6z165DfIodngtYa8y4aAvj9EALw_wcB%2526gclsrc%253Daw.ds; value1: HD3SS215; manufacturer: *
footprint 56-LEAD VQFN
pins: 1 AUX_SEL (power), 2 DC0(p) (power), 3 DC0(n) (power), 4 GND (power), 5 DC1(p) (power), 6 DC1(n) (power), 7 GND (power), 8 DC2(p) (power), 9 DC2(n) (power), 10 GND (power), 11 DC3(p) (power), 12 DC3(n) (power), 13 AUXC(p) (power), 14 AUXC(n) (power), 15 HPD C (power), 16 HPD A (power), 17 HPD B (power), 18 DDCCLK_C (power), 19 VDD (power), 20 NC (power), 21 NC (power), 22 DDCCLK_B (power), 23 DDCDAT_B (power), 24 AUXB(p) (power), 25 AUXB(n) (power), 26 DDCDAT_C (power), 27 DDCCLK_A (power), 28 DDCDAT_A (power), 29 AUXA(n) (power), 30 AUXA(p) (power), 31 DB3(n) (power), 32 DB3(p) (power), 33 GND (power), 34 DB2(n) (power), 35 DB2(p) (power), 36 GND (power), 37 DB1(n) (power), 38 DB1(p) (power), 39 GND (power), 40 DB0(n) (power), 41 DB0(p) (power), 42 NC (power), 43 OE (power), 44 DA3(n) (power), 45 DA3(p) (power), 46 GND (power), 47 DA2(n) (power), 48 DA2(p) (power), 49 GND (power), 50 DA1(n) (power), 51 DA1(p) (power), 52 GND (power), 53 DA0(n) (power), 54 DA0(p) (power), 55 VDD (power), 56 Dx_SEL (power)

## HDMI
designator X?
Connector; Manufacturer: *; Value: *; Value1: *
footprint HDMI
pins: 1 (power), 2 (power), 3 (power), 4 (power), 5 (power), 6 (power), 7 (power), 8 (power), 9 (power), 10 (power), 11 (power), 12 (power), 13 (power), 14 (power), 15 (power), 16 (power), 17 (power), 18 (power), 19 (power)
text: TMDS 2+; TMDS 2 Shield; TMDS 2-; TMDS 1+; TMDS 1 Shield; TMDS 1-; TMDS 0+; TMDS 0 Shield; TMDS 0-; TMDS C+; TMDS C Shield; TMDS C-; CEC; Reserved; SCL; SDA; DDC/CEC GND; +5V; Hot Plug

## Inductor
designator L?
HelpUrl: *; Value: *; Manufacturer: *; PartNumber: *; value1: *
footprint L0805
footprint L1206
footprint NRS30
footprint NRS50
pins: 1 (power), 2 (power)

## KREN 5A
designator DA?, comment КРЕН 5А
value: КРЕН 5А
footprint TO-220
footprint TO-220 STAY
pins: 1 IN (power), 2 GND (power), 3 OUT (power)

## LM339N
designator DA?
value: LM339N
footprint 14-LEAD DIP
part A pins: 1 OUT1 (power), 3 Vcc (power), 6 -IN1 (power), 7 +IN1 (power), 12 GND (power)
part B pins: 2 OUT2 (power), 4 -IN2 (power), 5 +IN2 (power)
part C pins: 8 -IN3 (power), 9 +IN3 (power), 14 OUT3 (power)
part D pins: 10 -IN4 (power), 11 +IN4 (power), 13 OUT4 (power)

## LT3080EST
designator DA?
Linear regulator; manufacturer: Linear technology; value: LT3080EST; url: https://www.analog.com/media/en/technical-documentation/data-sheets/3080fc.pdf; value1: LT3080EST
footprint sot223
pins: 1 SET (power), 2 OUT (power), 3 IN (power), 4 TAB (power)

## LTC4421
designator DA?
Power Switch; value: LTC4421; value1: *; manufacturer: *; url: https://www.analog.com/media/en/technical-documentation/data-sheets/LTC4421.pdf
footprint 36-LEAD SSOP
pins: 1 CPO (power), 2 CPOREF (power), 3 OUT1 (power), 4 SENSE1 (power), 5 SOURCE1 (power), 6 GATE1 (power), 7 V1 (power), 8 UVF1 (power), 9 UVR1 (power), 10 OV1 (power), 11 TMR1 (power), 12 ~{DISABLE1} (power), 13 ~{CH1} (power), 14 ~{VALID1} (power), 15 ~{FAULT1} (power), 16 CASIN (power), 17 INTVcc (power), 18 CASOUT (power), 19 QUAL (power), 20 RETRY (power), 21 ~{SHDN} (power), 22 ~{FAULT2} (power), 23 ~{VALID2} (power), 24 ~{CH2} (power), 25 ~{DISABLE2} (power), 26 TMR2 (power), 27 OV2 (power), 28 UVR2 (power), 29 UVF2 (power), 30 V2 (power), 31 GATE2 (power), 32 SOURCE2 (power), 33 SENSE2 (power), 34 OUT2 (power), 35 GND (power), 36 EXTVcc (power)

## LTM4622
designator DA?
DC/DC; manufacturer: Analog Devices; value: LTM4622; value1: *; url: https://www.analog.com/media/en/technical-documentation/data-sheets/LTM4622.pdf; ТУ: *
footprint 25-Lead BGA (6.25x6.25)
pins: A1 Vout2 (power), A2 Vin2 (power), A3 TRACK/SS2 (power), A4 FB2 (power), A5 COMP2 (power), B1 Vout2 (power), B2 RUN2 (power), B3 Vin2 (power), B4 PGOOD2 (power), B5 GND (power), C1 GND (power), C2 GND (power), C3 INTVcc (power), C4 FREQ (power), C5 SYNC/MODE (power), D1 Vout1 (power), D2 RUN1 (power), D3 Vin1 (power), D4 PGOOD1 (power), D5 GND (power), E1 Vout1 (power), E2 Vin1 (power), E3 TRACK/SS1 (power), E4 FB1 (power), E5 COMP1 (power)

## MAX485
designator DD?
RS-485 to UART; manufacturer: Maxim Integrated; value1: *; helpUrl: https://ru.mouser.com/datasheet/2/256/MAX490-1389177.pdf; value: *
footprint 8-Lead SOIC_N (150 mil)
pins: 1 RO (power), 2 ~{RE} (power), 3 DE (power), 4 DI (power), 5 GND (power), 6 A (power), 7 B (power), 8 Vcc (power)

## MAX3232
designator DD?
RS-232 to UART; manufacturer: Texas Instruments; value: MAX3232; value1: MAX3232; url: https://static.chipdip.ru/lib/869/DOC003869312.pdf
footprint 16-LEAD SOIC_N (150 mil)
pins: 1 C1+ (power), 2 V+ (power), 3 C1- (power), 4 C2+ (power), 5 C2- (power), 6 V- (power), 7 T2_OUT (power), 8 R2_IN (power), 9 R2_OUT (power), 10 T2_IN (power), 11 T1_IN (power), 12 R1_OUT (power), 13 R1_IN (power), 14 T1_OUT (power), 15 GND (power), 16 Vcc (power)

## MCP1824S
designator DA?
Voltage Regulator; Manufacturer: Microchip Technology; HelpUrl: *; PartNumber: *; Value: *
footprint sot223
pins: 1 IN (power), 2 GND (power), 3 OUT (power), 4 GND (power)

## MCP2551
designator DD?
CAN Transceiver; manufacturer: Microchip; value: MCP2551; value1: MCP2551; url: https://static.chipdip.ru/lib/204/DOC000204457.pdf
footprint 8-Lead SOIC_N (150 mil)
pins: 1 TxD (power), 2 Vss (power), 3 Vdd (power), 4 RxD (power), 5 Vref (power), 6 CAN_L (power), 7 CAN_H (power), 8 Rs (power)

## MIC5233
designator DA?
Voltage Regulator; PartNumber: MIC5233-3.3YS; Value: *; Case: *
footprint sot223
pins: 1 IN (power), 2 GND (power), 3 OUT (power), 4 EP (power)

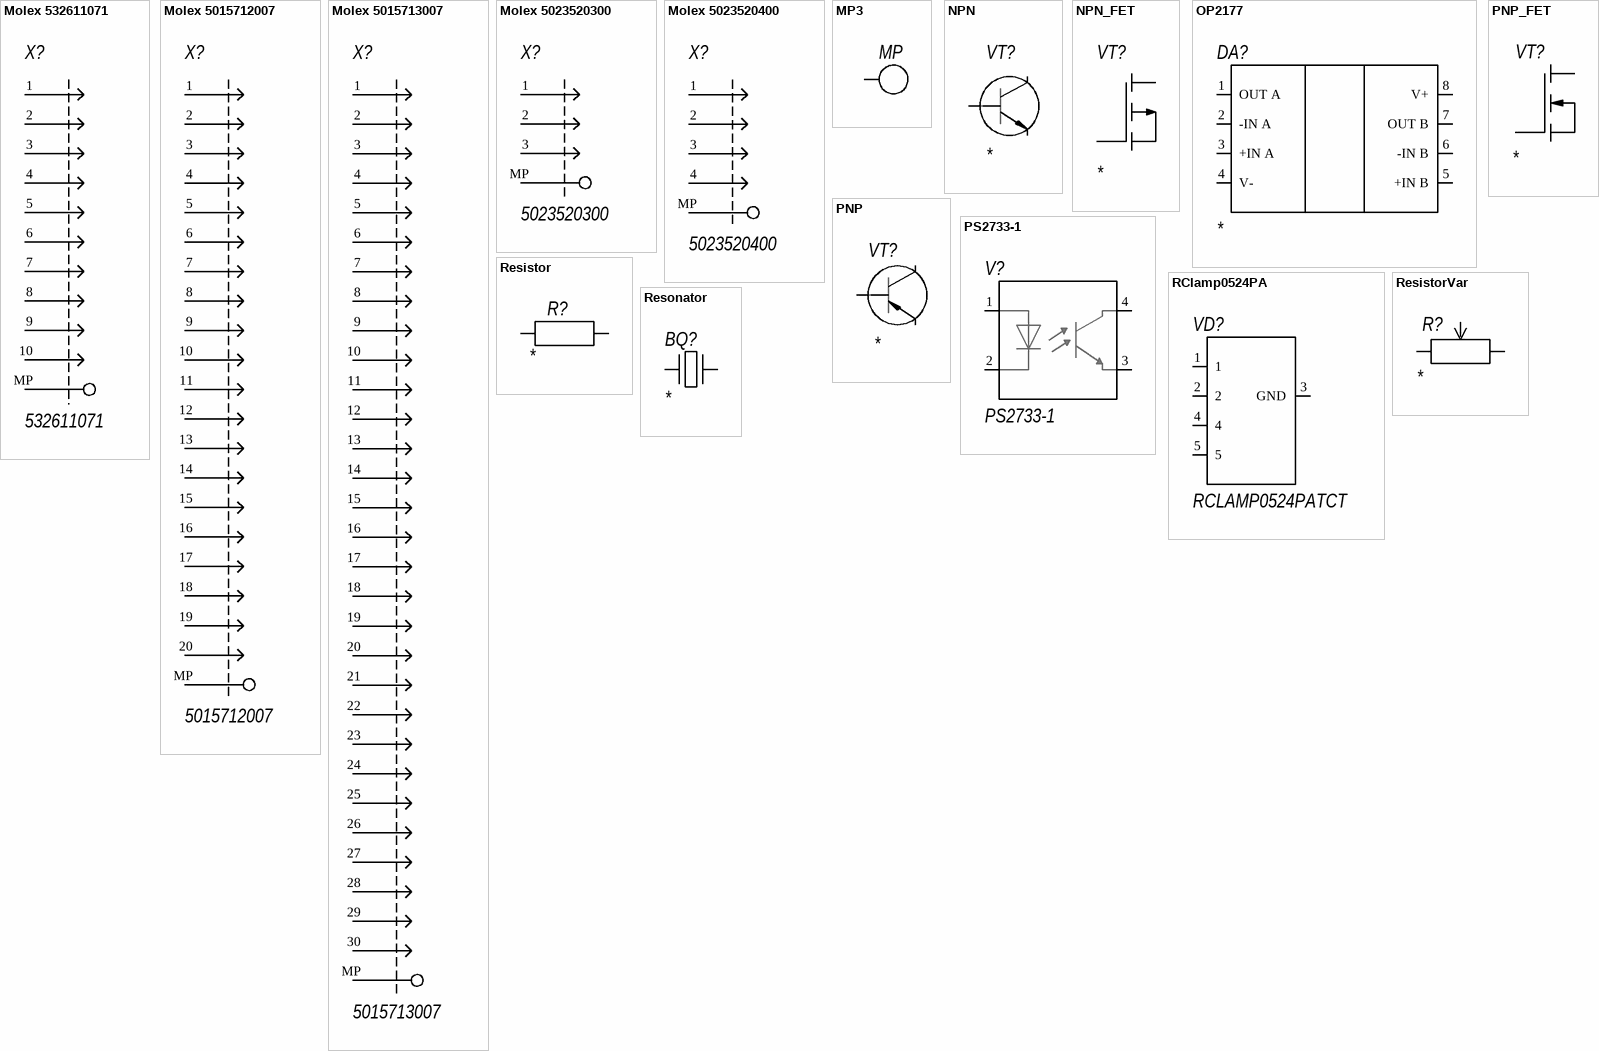
[diagram p7: symbols Molex 532611071 to Resonator]

## Molex 532611071
designator X?, comment 532611071
Connector; manufacturer: Molex; second part: 510211000; value: 532611071; ТУ: *; url: https://www.molex.com/molex/products/part-detail/pcb_headers/0532611071; value1: 532611071; terminal: 500798000
footprint Molex 532611071
pins: 1 (power), 2 (power), 3 (power), 4 (power), 5 (power), 6 (power), 7 (power), 8 (power), 9 (power), 10 (power), MP (power)

## Molex 5015712007
designator X?, comment 5015712007
Connector; manufacturer: Molex; second part: 5011892010; value: 5015712007; ТУ: *; url: https://www.molex.com/molex/products/part-detail/pcb_headers/5015712007; value1: 5015712007; terminal: 5011933000
footprint Molex 5015712007
footprint Molex 5015712007 two sided
pins: 1 (power), 2 (power), 3 (power), 4 (power), 5 (power), 6 (power), 7 (power), 8 (power), 9 (power), 10 (power), 11 (power), 12 (power), 13 (power), 14 (power), 15 (power), 16 (power), 17 (power), 18 (power), 19 (power), 20 (power), MP (power)

## Molex 5015713007
designator X?, comment 5015713007
Connector; manufacturer: Molex; second part: 5011893010; value: 5015713007; ТУ: *; url: https://www.molex.com/molex/products/part-detail/pcb_headers/5015713007; value1: 5015713007; terminal: 5011933000
footprint Molex 5015713007
footprint Molex 5015713007 two sided
pins: 1 (power), 2 (power), 3 (power), 4 (power), 5 (power), 6 (power), 7 (power), 8 (power), 9 (power), 10 (power), 11 (power), 12 (power), 13 (power), 14 (power), 15 (power), 16 (power), 17 (power), 18 (power), 19 (power), 20 (power), 21 (power), 22 (power), 23 (power), 24 (power), 25 (power), 26 (power), 27 (power), 28 (power), 29 (power), 30 (power), MP (power)

## Molex 5023520300
designator X?, comment 5023520300
Connector; manufacturer: Molex; value1: 5023520300 (5023510300); value: 5023520300; ТУ: *; url: https://www.molex.com/molex/products/part-detail/pcb_headers/5023520300#ViewerThreeD; terminal: 502128000
footprint Molex 5023520300
pins: 1 (power), 2 (power), 3 (power), MP (power)

## Molex 5023520400
designator X?, comment 5023520400
Connector; manufacturer: Molex; value1: 5023520400 (5023510400); value: 5023520400; ТУ: *; url: https://www.molex.com/molex/products/part-detail/pcb_headers/5023520400; terminal: 502128000
footprint Molex 5023520400
pins: 1 (power), 2 (power), 3 (power), 4 (power), MP (power)

## MP3
designator MP
Mount point
footprint MP3
pins: MP (power)

## NPN
designator VT?
Transistor; Value: *; Value1: *; ТУ: *; Manufacturer: *; Url: *
footprint SOT23
footprint KT-27
footprint KT-13
pins: 1, 2, 3

## NPN_FET
designator VT?
Mosfet; Value: *; Value1: *; ТУ: *; Manufacturer: *; Url: *
footprint 8-Lead MSOP; pin to pad d.1>8 d.2>6 d.3>7 d.4>5 g>4 s.1>1 s.2>2 s.3>3
pins: d.1 d (power), d.2 d, d.3 d (power), d.4 d (power), g, s.1 s, s.2 s (power), s.3 s (power)

## OP2177
designator DA?
OP amplifier; Value: *; HelpUrl: *; Manufacturer: *; PartNumber: *
footprint 8-Lead MSOP
pins: 1 OUT A (power), 2 -IN A (power), 3 +IN A (power), 4 V- (power), 5 +IN B (power), 6 -IN B (power), 7 OUT B (power), 8 V+ (power)

## PNP
designator VT?
Transistor; Value: *; Value1: *; ТУ: *; Manufacturer: *; Url: *
pins: 0, 1, 2

## PNP_FET
designator VT?
Mosfet; Value: *; Value1: *; ТУ: *; Manufacturer: *; Url: *
footprint 2p7233a; pin to pad d.1>2 d.2>2 d.3>2 d.4>2 g>0 s.1>1 s.2>1 s.3>1
pins: d.1 d (power), d.2 d (power), d.3 d, d.4 d (power), g, s.1 s, s.2 s (power), s.3 s (power)

## PS2733-1
designator V?
Optron; value1: PS2733-1; manufacturer: *; url: https://www.renesas.com/in/en/doc/products/opt/r08ds0162ej0100-ps2733-1.pdf; value: PS2733-1
footprint 4-LEAD SOP
pins: 1 (power), 2 (power), 3 (power), 4 (power)

## RClamp0524PA
designator VD?, comment RCLAMP0524PATCT
TVS array; manufacturer: Semtech Corporation; value: RCLAMP0524PATCT; ТУ: *; value1: RCLAMP0524PATCT; helpUrl: https://www.tme.eu/Document/ddd28497587d2fdabac9f60bf04b42da/RCLAMP0524PA.pdf
footprint RCLAMP0524P
pins: 1 (power), 2 (power), 3 GND (power), 4 (power), 5 (power)

## Resistor
designator R?
Value: *; Value1: *; ТУ: *; Manufacturer: *; Url: *
footprint R0201
footprint R0402
footprint R0603
footprint R1206
footprint R2010
footprint R2512
footprint R0805
footprint R 10mm
pins: 1, 2

## ResistorVar
designator R?
Value: *; Value1: *; ТУ: *; Url: *; Manufacturer: *
footprint СП5-2ВБ
footprint OFF BOARD RESISTOR
pins: 1, 2, 3 (power)

## Resonator
designator BQ?
value: *; url: *; manufacturer: *; value1: *
footprint MC-405
footprint HC49/S
footprint ABM7
pins: 1 (power), 2 (power)

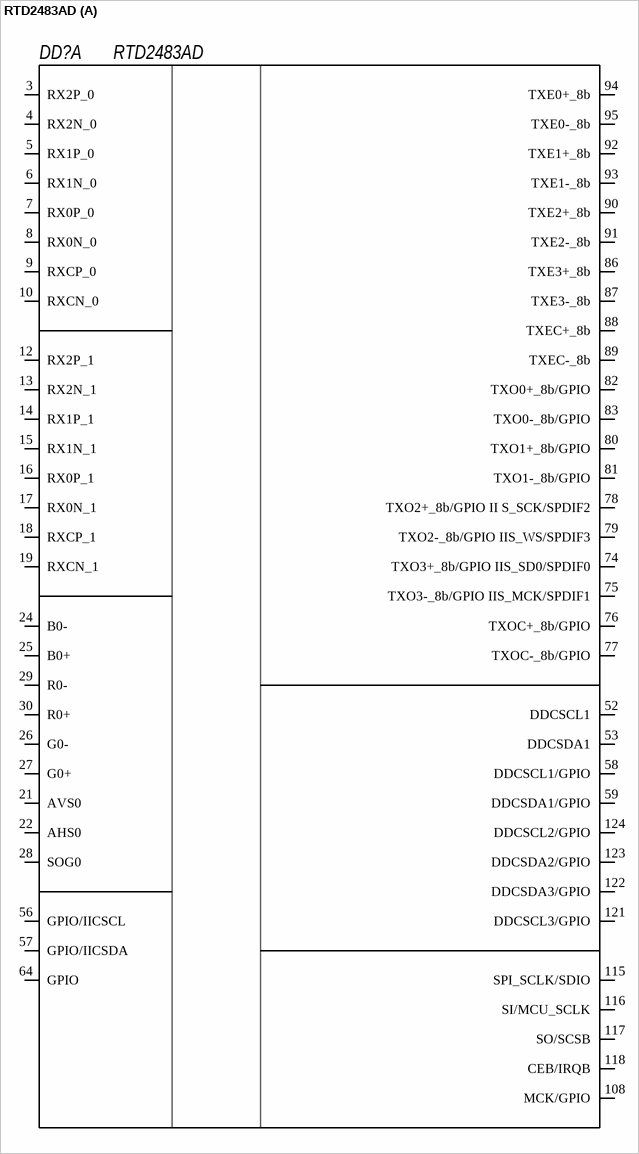
[diagram p8: symbol RTD2483AD]

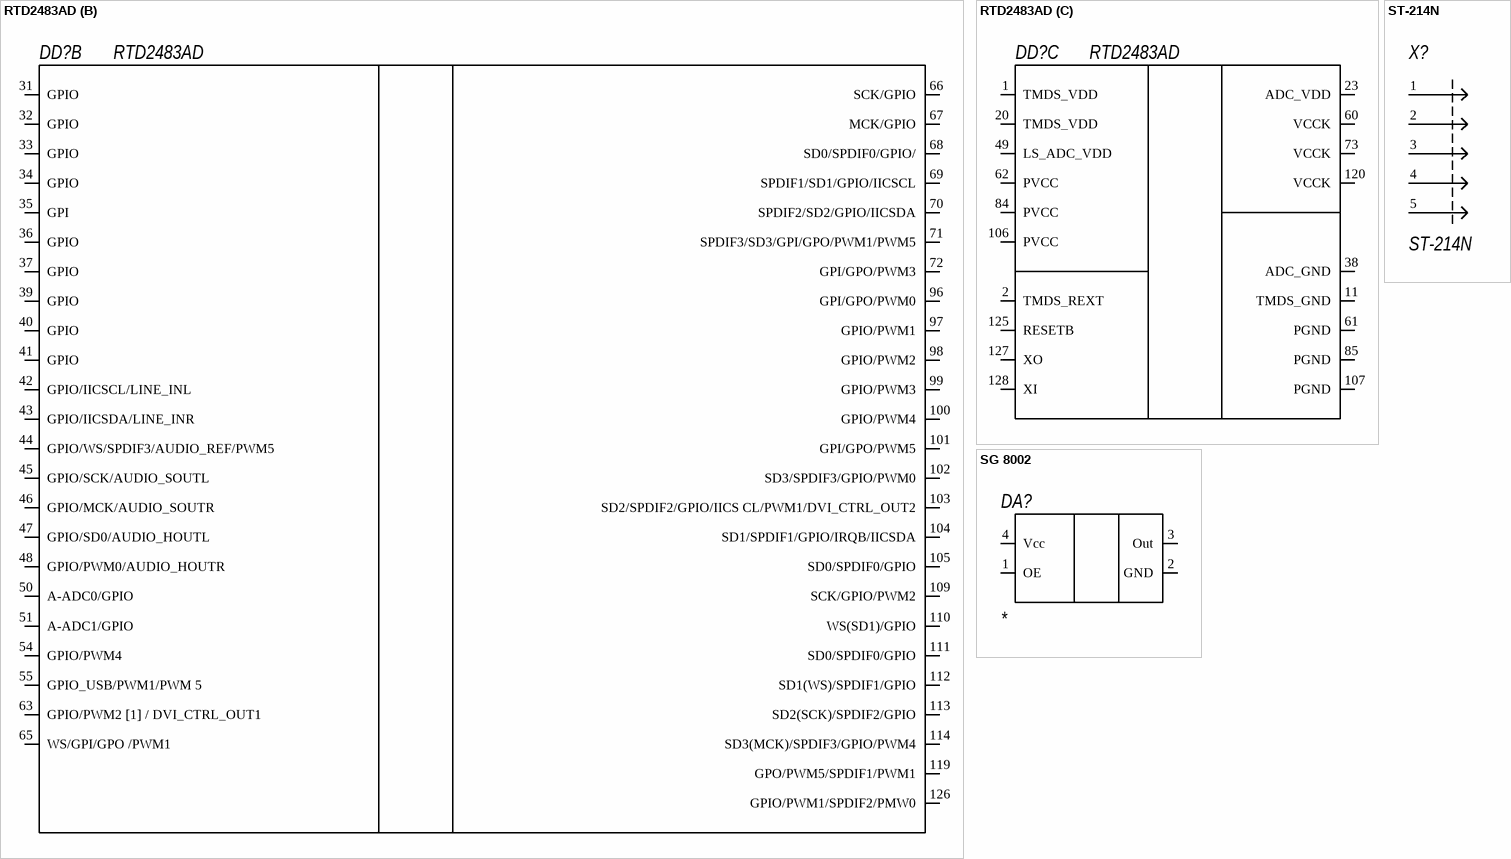
[diagram p9: symbols RTD2483AD to ST-214N]

## RTD2483AD
designator DD?
Scaler; Value: RTD2483AD; Manufacturer: *; url: *; ТУ: *; Value1: RTD2483AD
footprint 128-LEAD LQFP (14x20)
part A pins: 3 RX2P_0 (power), 4 RX2N_0 (power), 5 RX1P_0 (power), 6 RX1N_0 (power), 7 RX0P_0 (power), 8 RX0N_0 (power), 9 RXCP_0 (power), 10 RXCN_0 (power), 12 RX2P_1 (power), 13 RX2N_1 (power), 14 RX1P_1 (power), 15 RX1N_1 (power), 16 RX0P_1 (power), 17 RX0N_1 (power), 18 RXCP_1 (power), 19 RXCN_1 (power), 21 AVS0 (power), 22 AHS0 (power), 24 B0- (power), 25 B0+ (power), 26 G0- (power), 27 G0+ (power), 28 SOG0 (power), 29 R0- (power), 30 R0+ (power), 52 DDCSCL1 (power), 53 DDCSDA1 (power), 56 GPIO/IICSCL (power), 57 GPIO/IICSDA (power), 58 DDCSCL1/GPIO (power), 59 DDCSDA1/GPIO (power), 64 GPIO (power), 74 TXO3+_8b/GPIO IIS_SD0/SPDIF0 (power), 75 TXO3-_8b/GPIO IIS_MCK/SPDIF1 (power), 76 TXOC+_8b/GPIO (power), 77 TXOC-_8b/GPIO (power), 78 TXO2+_8b/GPIO II S_SCK/SPDIF2 (power), 79 TXO2-_8b/GPIO IIS_WS/SPDIF3 (power), 80 TXO1+_8b/GPIO (power), 81 TXO1-_8b/GPIO (power), 82 TXO0+_8b/GPIO (power), 83 TXO0-_8b/GPIO (power), 86 TXE3+_8b (power), 87 TXE3-_8b (power), 88 TXEC+_8b (power), 89 TXEC-_8b (power), 90 TXE2+_8b (power), 91 TXE2-_8b (power), 92 TXE1+_8b (power), 93 TXE1-_8b (power), 94 TXE0+_8b (power), 95 TXE0-_8b (power), 108 MCK/GPIO (power), 115 SPI_SCLK/SDIO (power), 116 SI/MCU_SCLK (power), 117 SO/SCSB (power), 118 CEB/IRQB (power), 121 DDCSCL3/GPIO (power), 122 DDCSDA3/GPIO (power), 123 DDCSDA2/GPIO (power), 124 DDCSCL2/GPIO (power)
part B pins: 31 GPIO (power), 32 GPIO (power), 33 GPIO (power), 34 GPIO (power), 35 GPI (power), 36 GPIO (power), 37 GPIO (power), 39 GPIO (power), 40 GPIO (power), 41 GPIO (power), 42 GPIO/IICSCL/LINE_INL (power), 43 GPIO/IICSDA/LINE_INR (power), 44 GPIO/WS/SPDIF3/AUDIO_REF/PWM5 (power), 45 GPIO/SCK/AUDIO_SOUTL (power), 46 GPIO/MCK/AUDIO_SOUTR (power), 47 GPIO/SD0/AUDIO_HOUTL (power), 48 GPIO/PWM0/AUDIO_HOUTR (power), 50 A-ADC0/GPIO (power), 51 A-ADC1/GPIO (power), 54 GPIO/PWM4 (power), 55 GPIO_USB/PWM1/PWM 5 (power), 63 GPIO/PWM2 [1] / DVI_CTRL_OUT1 (power), 65 WS/GPI/GPO /PWM1 (power), 66 SCK/GPIO (power), 67 MCK/GPIO (power), 68 SD0/SPDIF0/GPIO/ (power), 69 SPDIF1/SD1/GPIO/IICSCL (power), 70 SPDIF2/SD2/GPIO/IICSDA (power), 71 SPDIF3/SD3/GPI/GPO/PWM1/PWM5 (power), 72 GPI/GPO/PWM3 (power), 96 GPI/GPO/PWM0 (power), 97 GPIO/PWM1 (power), 98 GPIO/PWM2 (power), 99 GPIO/PWM3 (power), 100 GPIO/PWM4 (power), 101 GPI/GPO/PWM5 (power), 102 SD3/SPDIF3/GPIO/PWM0 (power), 103 SD2/SPDIF2/GPIO/IICS CL/PWM1/DVI_CTRL_OUT2 (power), 104 SD1/SPDIF1/GPIO/IRQB/IICSDA (power), 105 SD0/SPDIF0/GPIO (power), 109 SCK/GPIO/PWM2 (power), 110 WS(SD1)/GPIO (power), 111 SD0/SPDIF0/GPIO (power), 112 SD1(WS)/SPDIF1/GPIO (power), 113 SD2(SCK)/SPDIF2/GPIO (power), 114 SD3(MCK)/SPDIF3/GPIO/PWM4 (power), 119 GPO/PWM5/SPDIF1/PWM1 (power), 126 GPIO/PWM1/SPDIF2/PMW0 (power)
part C pins: 1 TMDS_VDD (power), 2 TMDS_REXT (power), 11 TMDS_GND (power), 20 TMDS_VDD (power), 23 ADC_VDD (power), 38 ADC_GND (power), 49 LS_ADC_VDD (power), 60 VCCK (power), 61 PGND (power), 62 PVCC (power), 73 VCCK (power), 84 PVCC (power), 85 PGND (power), 106 PVCC (power), 107 PGND (power), 120 VCCK (power), 125 RESETB (power), 127 XO (power), 128 XI (power)

## SG 8002
designator DA?
Oscillator; Manufacturer: EPSON; HelpUrl: https://support.epson.biz/td/api/doc_check.php?dl=brief_SG-8002CA&lang=en; PartNumber: *; Value: *; Value1: *
footprint 4-SMD, NO LEAD
footprint 4-LEAD SON 3.2x2.5
pins: 1 OE (power), 2 GND (power), 3 Out (power), 4 Vcc (power)

## ST-214N
designator X?
Connector; value: ST-214N
footprint ST-214N
pins: 1 (power), 2 (power), 3 (power), 4 (power), 5 (power)

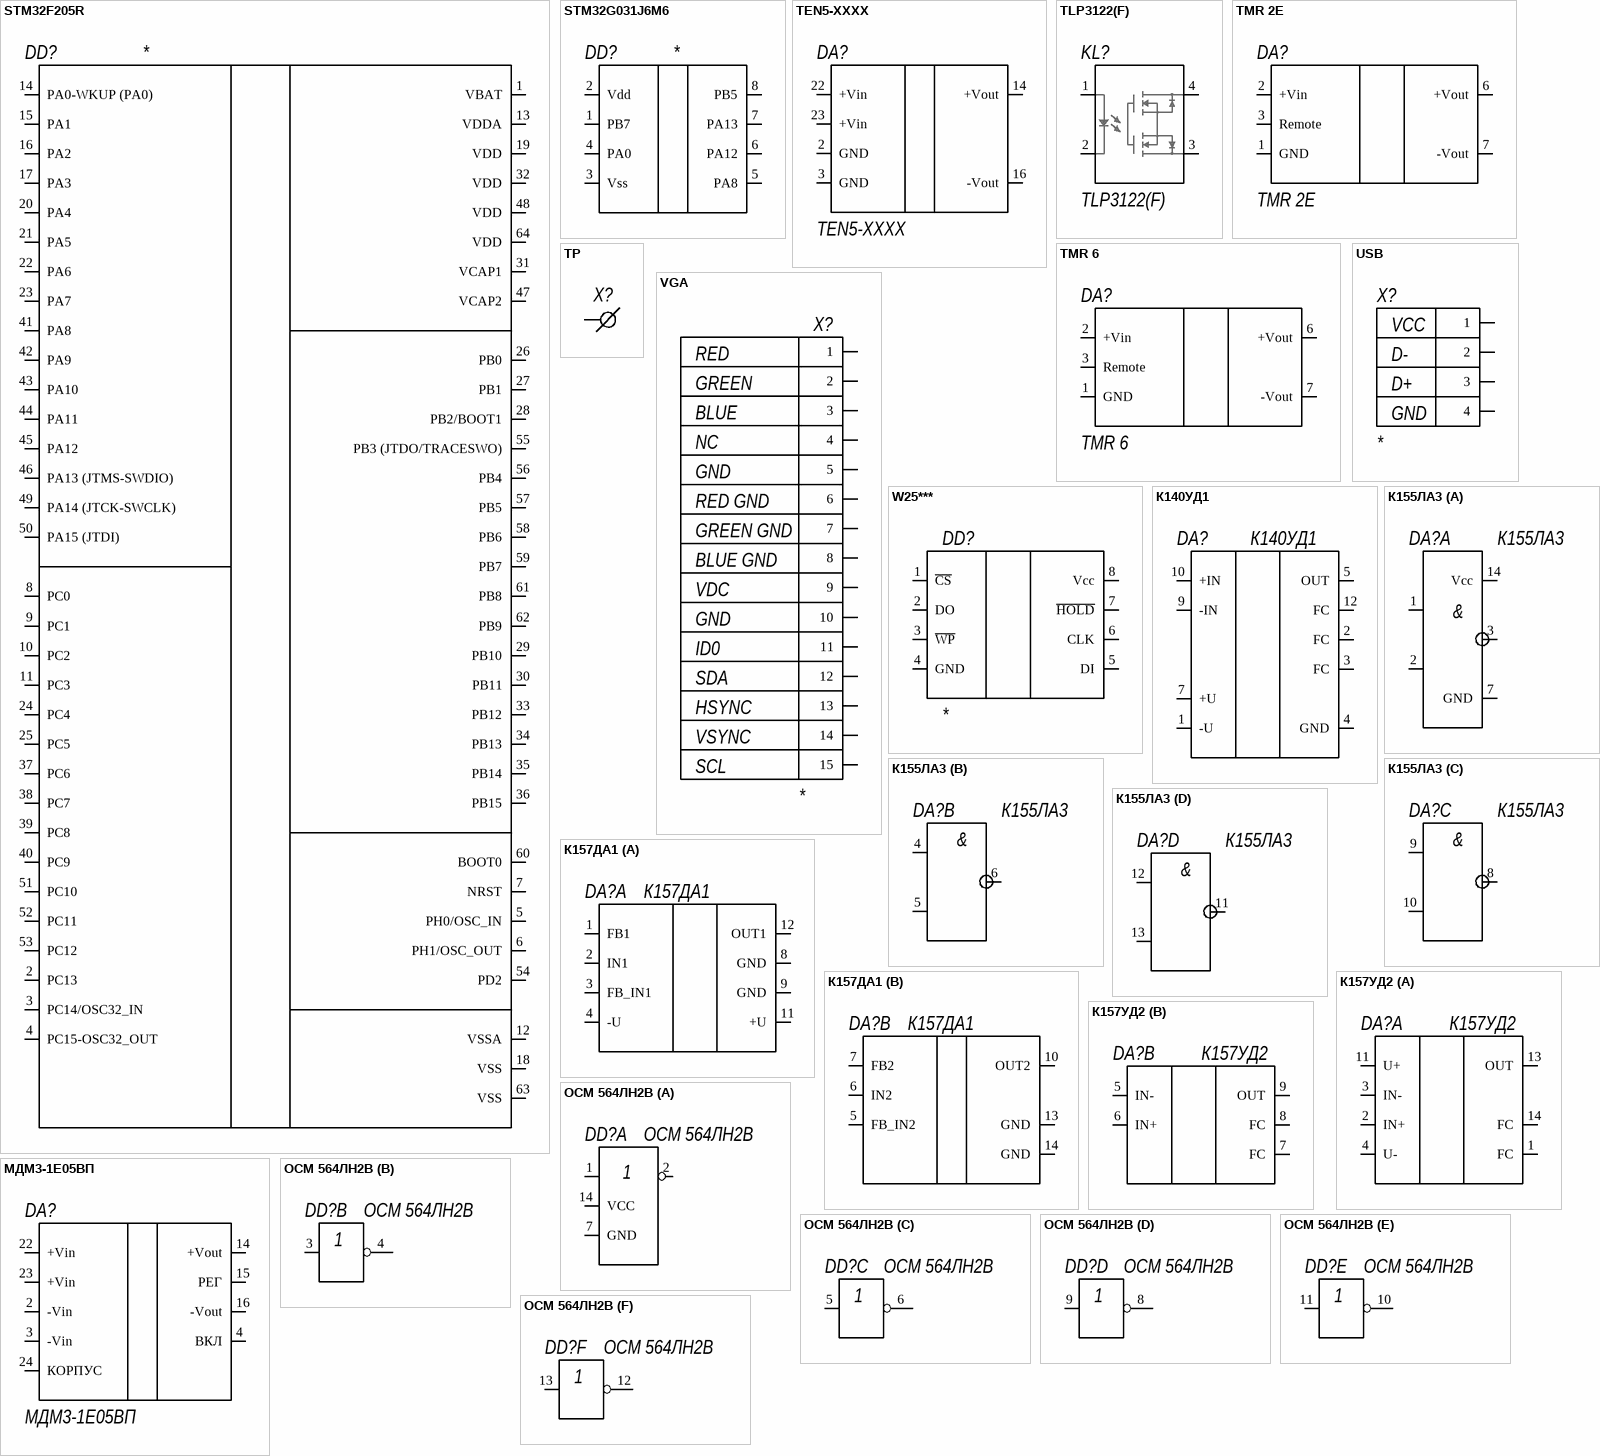
[diagram p10: symbols STM32F205R to ОСМ 564ЛН2В]

## STM32F205R
designator DD?
Microcontroller; Value: *; Value1: *; Manufacturer: *; ТУ: *
footprint 64-LEAD LQFP
pins: 1 VBAT (power), 2 PC13 (power), 3 PC14/OSC32_IN (power), 4 PC15-OSC32_OUT (power), 5 PH0/OSC_IN (power), 6 PH1/OSC_OUT (power), 7 NRST (power), 8 PC0 (power), 9 PC1 (power), 10 PC2 (power), 11 PC3 (power), 12 VSSA (power), 13 VDDA (power), 14 PA0-WKUP (PA0) (power), 15 PA1 (power), 16 PA2 (power), 17 PA3 (power), 18 VSS (power), 19 VDD (power), 20 PA4 (power), 21 PA5 (power), 22 PA6 (power), 23 PA7 (power), 24 PC4 (power), 25 PC5 (power), 26 PB0 (power), 27 PB1 (power), 28 PB2/BOOT1 (power), 29 PB10 (power), 30 PB11 (power), 31 VCAP1 (power), 32 VDD (power), 33 PB12 (power), 34 PB13 (power), 35 PB14 (power), 36 PB15 (power), 37 PC6 (power), 38 PC7 (power), 39 PC8 (power), 40 PC9 (power), 41 PA8 (power), 42 PA9 (power), 43 PA10 (power), 44 PA11 (power), 45 PA12 (power), 46 PA13 (JTMS-SWDIO) (power), 47 VCAP2 (power), 48 VDD (power), 49 PA14 (JTCK-SWCLK) (power), 50 PA15 (JTDI) (power), 51 PC10 (power), 52 PC11 (power), 53 PC12 (power), 54 PD2 (power), 55 PB3 (JTDO/TRACESWO) (power), 56 PB4 (power), 57 PB5 (power), 58 PB6 (power), 59 PB7 (power), 60 BOOT0 (power), 61 PB8 (power), 62 PB9 (power), 63 VSS (power), 64 VDD (power)

## STM32G031J6M6
designator DD?
manufacturer: *; value1: *; value: *; url: *
footprint 8-Lead SOIC_N (150 mil)
pins: 1 PB7 (power), 2 Vdd (power), 3 Vss (power), 4 PA0 (power), 5 PA8 (power), 6 PA12 (power), 7 PA13 (power), 8 PB5 (power)

## TEN5-XXXX
designator DA?
DC/DC; Manufacturer: Traco Power; Value: TEN5-XXXX; HelpUrl: https://static.chipdip.ru/lib/005/DOC001005740.pdf; Value1: *
footprint TEN5-XXXX
pins: 2 GND (power), 3 GND (power), 14 +Vout (power), 16 -Vout (power), 22 +Vin (power), 23 +Vin (power)

## TLP3122(F)
designator KL?
Isolator - Gate Driver; manufacturer: Toshiba Semiconductor and Storage; value: TLP3122(F); helpUrl: https://www.digikey.com/products/en?keywords=TLP3122(F); value1: TLP3122(F)
footprint 4-LEAD SOP
pins: 1 (power), 2 (power), 3 (power), 4 (power)

## TMR 2E
designator DA?
DC/DC; Manufacturer: Traco Power; Value: TMR 2E; Value1: *
footprint SIP8(1,2,3,5,6,7,8)
pins: 1 GND (power), 2 +Vin (power), 3 Remote (power), 6 +Vout (power), 7 -Vout (power)

## TMR 6
designator DA?
DC/DC; Manufacturer: Traco Power; Value: TMR 6; Value1: *
footprint SIP8(1,2,3,5,6,7,8)
pins: 1 GND (power), 2 +Vin (power), 3 Remote (power), 6 +Vout (power), 7 -Vout (power)

## TP
designator X?  (value not drawn)
footprint TP 1,4mm
pins: 1 (power)

## USB
designator X?
Connector; Value: *; Manufacturer: *; Case: *
footprint UJ2-BH-W1-TH (USB type B)
pins: 1 (power), 2 (power), 3 (power), 4 (power)
text: VCC; D-; D+; GND

## VGA
designator X?
Connector; Manufacturer: *; Value: *; Value1: *
footprint DE15 (DB15HD)
pins: 1 (power), 2 (power), 3 (power), 4 (power), 5 (power), 6 (power), 7 (power), 8 (power), 9 (power), 10 (power), 11 (power), 12 (power), 13 (power), 14 (power), 15 (power)
text: RED; GREEN; BLUE; NC; GND; RED GND; GREEN GND; BLUE GND; VDC; ID0; SDA; HSYNC; VSYNC; SCL

## W25***
designator DD?
SPI Flash; value: *; value1: *; manufacturer: *; url: https://www.winbond.com/resource-files/w25q40bw%20revf%20101113.pdf; ТУ: *
footprint 8-Lead SOIC_N (150 mil)
footprint 8-LEAD SOIC_W (208 mil)
pins: 1 ~{CS} (power), 2 DO (power), 3 ~{WP} (power), 4 GND (power), 5 DI (power), 6 CLK (power), 7 ~{HOLD} (power), 8 Vcc (power)

## К140УД1
designator DA?
value: К140УД1
footprint 301.12-1
pins: 1 -U (power), 2 FC (power), 3 FC (power), 4 GND (power), 5 OUT (power), 7 +U (power), 9 -IN (power), 10 +IN (power), 12 FC (power)

## К155ЛА3
designator DA?
value: К155ЛА3
footprint 14-LEAD DIP
part A pins: 1 9 (power), 2 10 (power), 3 11 (power), 7 GND (power), 14 Vcc (power)
part B pins: 4 12 (power), 5 13 (power), 6 14 (power)
part C pins: 8 16 (power), 9 17 (power), 10 18 (power)
part D pins: 11 19 (power), 12 20 (power), 13 21 (power)
part A text: &
part B text: &
part C text: &
part D text: &

## К157ДА1
designator DA?
value: К157ДА1
footprint 14-LEAD DIP
part A pins: 1 FB1 (power), 2 IN1 (power), 3 FB_IN1 (power), 4 -U (power), 8 GND (power), 9 GND (power), 11 +U (power), 12 OUT1 (power)
part B pins: 5 FB_IN2 (power), 6 IN2 (power), 7 FB2 (power), 10 OUT2 (power), 13 GND (power), 14 GND (power)

## К157УД2
designator DA?
value: К157УД2
footprint 14-LEAD DIP
part A pins: 1 FC (power), 2 IN+ (power), 3 IN- (power), 4 U- (power), 11 U+ (power), 13 OUT (power), 14 FC (power)
part B pins: 5 IN- (power), 6 IN+ (power), 7 FC (power), 8 FC (power), 9 OUT (power)

## МДМ3-1Е05ВП
designator DA?
Value: МДМ3-1Е05ВП; Manufacturer: *; Value1: *; Url: *; ТУ: *
footprint МДМ3-1Е05ВП
pins: 2 -Vin (power), 3 -Vin (power), 4 ВКЛ (power), 14 +Vout (power), 15 РЕГ (power), 16 -Vout (power), 22 +Vin (power), 23 +Vin (power), 24 КОРПУС (power)

## ОСМ 564ЛН2В
designator DD?
ТУ: бК0.347.064 ТУ2/02; Value: ОСМ 564ЛН2В; Value1: *; Manufacturer: *; Url: https://eandc.ru/upload/iblock/2f4/2f42b8626b769b1706254649f50e99e8.pdf
footprint Case 401.14-5
part A pins: 1, 2 (power), 7 GND (power), 14 VCC (power)
part B pins: 3, 4 (power)
part C pins: 5, 6 (power)
part D pins: 8 (power), 9
part E pins: 10 (power), 11
part F pins: 12 (power), 13